# Altium integrated library Motorola Microcontroller 16-Bit.IntLib: 323 symbols (part 1 of 22)
Pins are listed as number, name and electrical type; pins without a type are passive.

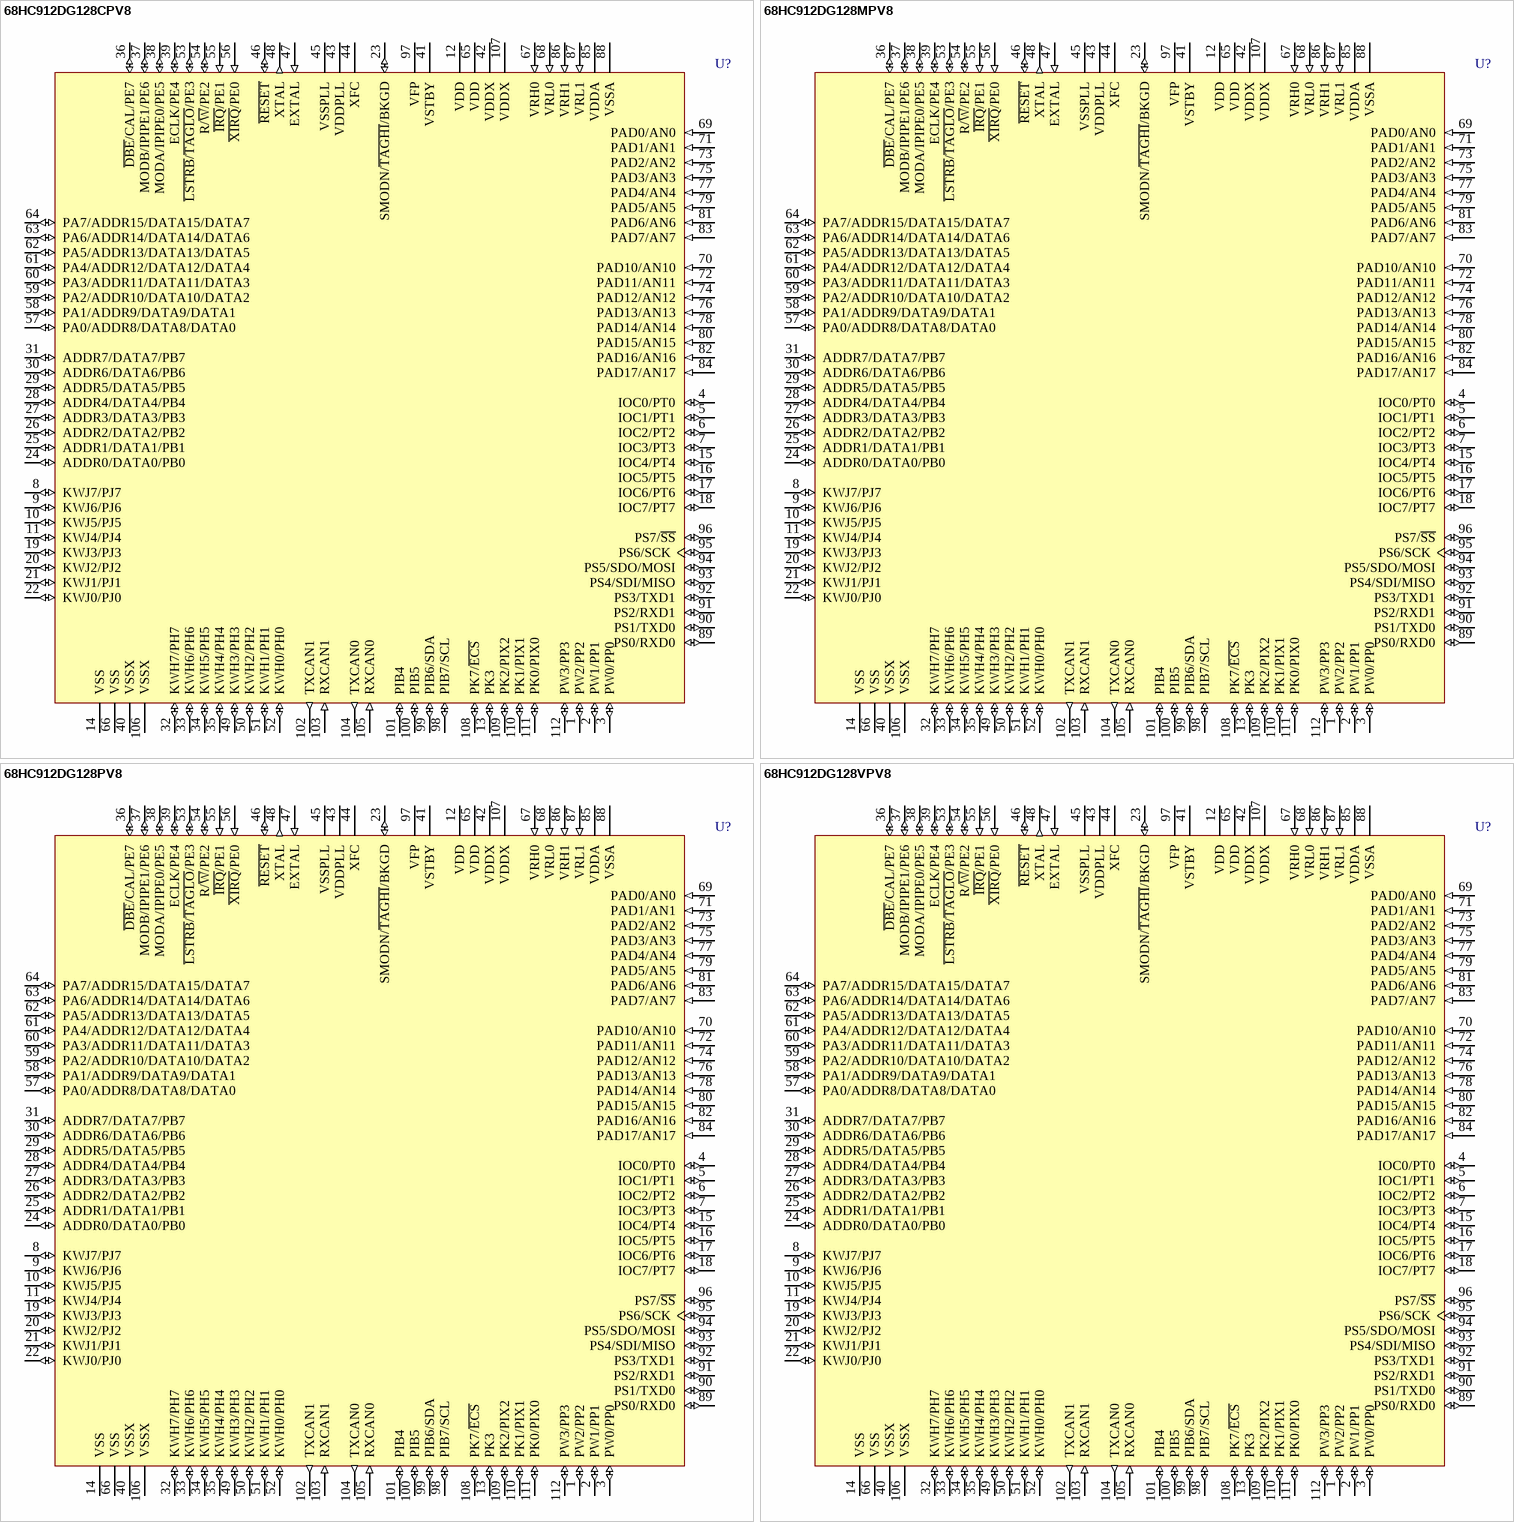
[diagram p0: symbols 68HC912DG128CPV8 to 68HC912DG128VPV8]

## 68HC912DG128CPV8
designator U?
16-Bit Microcontroller; Published: 21-Mar-2003; LatestRevisionDate: 13-Apr-2006; LatestRevisionNote: IPC-7351 Footprint Added.; DatasheetVersion: 5-Mar-2001; PackageVersion: rev3.1, Nov-2000; PackageReference: 987-01; Publisher: Altium Limited; PackageDescription: 112-Pin Thin Quad Flat Pack 0.65 mm Pitch; ComponentLink1Description: Manufacturer Link; ComponentLink1URL: http://www.freescale.com/
footprint 987-01_N (Thin QFP, 112-Leads, Body 20 x 20mm, Pitch 0.65mm, IPC Medium Density)
footprint 987-01_L (Thin QFP, 112-Leads, Body 20 x 20mm, Pitch 0.65mm, IPC High Density)
footprint 987-01_M (Thin QFP, 112-Leads, Body 20 x 20mm, Pitch 0.65mm, IPC Low Density)
3D model 68HC912-987-01 (112-Pin Thin Quad Flat Pack 0.65 mm Pitch)
pins: 1 PW2/PP2 (io), 2 PW1/PP1 (io), 3 PW0/PP0 (io), 4 IOC0/PT0 (io), 5 IOC1/PT1 (io), 6 IOC2/PT2 (io), 7 IOC3/PT3 (io), 8 KWJ7/PJ7 (io), 9 KWJ6/PJ6 (io), 10 KWJ5/PJ5 (io), 11 KWJ4/PJ4 (io), 12 VDD (power), 13 PK3 (io), 14 VSS (power), 15 IOC4/PT4 (io), 16 IOC5/PT5 (io), 17 IOC6/PT6 (io), 18 IOC7/PT7 (io), 19 KWJ3/PJ3 (io), 20 KWJ2/PJ2 (io), 21 KWJ1/PJ1 (io), 22 KWJ0/PJ0 (io), 23 SMODN/~{TAGHI}/BKGD (io), 24 ADDR0/DATA0/PB0 (io), 25 ADDR1/DATA1/PB1 (io), 26 ADDR2/DATA2/PB2 (io), 27 ADDR3/DATA3/PB3 (io), 28 ADDR4/DATA4/PB4 (io), 29 ADDR5/DATA5/PB5 (io), 30 ADDR6/DATA6/PB6 (io), 31 ADDR7/DATA7/PB7 (io), 32 KWH7/PH7 (io), 33 KWH6/PH6 (io), 34 KWH5/PH5 (io), 35 KWH4/PH4 (io), 36 ~{DBE}/CAL/PE7 (io), 37 MODB/IPIPE1/PE6 (io), 38 MODA/IPIPE0/PE5 (io), 39 ECLK/PE4 (io), 40 VSSX (power), 41 VSTBY (power), 42 VDDX (power), 43 VDDPLL (power), 44 XFC, 45 VSSPLL (power), 46 ~{RESET} (io), 47 EXTAL (in), 48 XTAL (out), 49 KWH3/PH3 (io), 50 KWH2/PH2 (io), 51 KWH1/PH1 (io), 52 KWH0/PH0 (io), 53 ~{LSTRB}/~{TAGLO}/PE3 (io), 54 R/~{W}/PE2 (io), 55 ~{IRQ}/PE1 (in), 56 ~{XIRQ}/PE0 (in), 57 PA0/ADDR8/DATA8/DATA0 (io), 58 PA1/ADDR9/DATA9/DATA1 (io), 59 PA2/ADDR10/DATA10/DATA2 (io), 60 PA3/ADDR11/DATA11/DATA3 (io), 61 PA4/ADDR12/DATA12/DATA4 (io), 62 PA5/ADDR13/DATA13/DATA5 (io), 63 PA6/ADDR14/DATA14/DATA6 (io), 64 PA7/ADDR15/DATA15/DATA7 (io), 65 VDD (power), 66 VSS (power), 67 VRH0 (in), 68 VRL0 (in), 69 PAD0/AN0 (in), 70 PAD10/AN10 (in), 71 PAD1/AN1 (in), 72 PAD11/AN11 (in), 73 PAD2/AN2 (in), 74 PAD12/AN12 (in), 75 PAD3/AN3 (in), 76 PAD13/AN13 (in), 77 PAD4/AN4 (in), 78 PAD14/AN14 (in), 79 PAD5/AN5 (in), 80 PAD15/AN15 (in), 81 PAD6/AN6 (in), 82 PAD16/AN16 (in), 83 PAD7/AN7 (in), 84 PAD17/AN17 (in), 85 VDDA (power), 86 VRH1 (in), 87 VRL1 (in), 88 VSSA (power), 89 PS0/RXD0 (io), 90 PS1/TXD0 (io), 91 PS2/RXD1 (io), 92 PS3/TXD1 (io), 93 PS4/SDI/MISO (io), 94 PS5/SDO/MOSI (io), 95 PS6/SCK (io), 96 PS7/~{SS} (io), 97 VFP (power), 98 PIB7/SCL (io), 99 PIB6/SDA (io), 100 PIB5 (io), 101 PIB4 (io), 102 TXCAN1 (out), 103 RXCAN1 (in), 104 TXCAN0 (out), 105 RXCAN0 (in), 106 VSSX (power), 107 VDDX (power), 108 PK7/~{ECS} (io), 109 PK2/PIX2 (io), 110 PK1/PIX1 (io), 111 PK0/PIX0 (io), 112 PW3/PP3 (io)

## 68HC912DG128MPV8
designator U?
16-Bit Microcontroller; Note: M Temperature Operation only available for single chip modes.; Published: 21-Mar-2003; LatestRevisionDate: 13-Apr-2006; LatestRevisionNote: IPC-7351 Footprint Added.; DatasheetVersion: 5-Mar-2001; PackageVersion: rev3.1, Nov-2000; PackageReference: 987-01; Publisher: Altium Limited; PackageDescription: 112-Pin Thin Quad Flat Pack 0.65 mm Pitch; ComponentLink1Description: Manufacturer Link; ComponentLink1URL: http://www.freescale.com/
footprint 987-01_N (Thin QFP, 112-Leads, Body 20 x 20mm, Pitch 0.65mm, IPC Medium Density)
footprint 987-01_L (Thin QFP, 112-Leads, Body 20 x 20mm, Pitch 0.65mm, IPC High Density)
footprint 987-01_M (Thin QFP, 112-Leads, Body 20 x 20mm, Pitch 0.65mm, IPC Low Density)
3D model 68HC912-987-01 (112-Pin Thin Quad Flat Pack 0.65 mm Pitch)
pins: 1 PW2/PP2 (io), 2 PW1/PP1 (io), 3 PW0/PP0 (io), 4 IOC0/PT0 (io), 5 IOC1/PT1 (io), 6 IOC2/PT2 (io), 7 IOC3/PT3 (io), 8 KWJ7/PJ7 (io), 9 KWJ6/PJ6 (io), 10 KWJ5/PJ5 (io), 11 KWJ4/PJ4 (io), 12 VDD (power), 13 PK3 (io), 14 VSS (power), 15 IOC4/PT4 (io), 16 IOC5/PT5 (io), 17 IOC6/PT6 (io), 18 IOC7/PT7 (io), 19 KWJ3/PJ3 (io), 20 KWJ2/PJ2 (io), 21 KWJ1/PJ1 (io), 22 KWJ0/PJ0 (io), 23 SMODN/~{TAGHI}/BKGD (io), 24 ADDR0/DATA0/PB0 (io), 25 ADDR1/DATA1/PB1 (io), 26 ADDR2/DATA2/PB2 (io), 27 ADDR3/DATA3/PB3 (io), 28 ADDR4/DATA4/PB4 (io), 29 ADDR5/DATA5/PB5 (io), 30 ADDR6/DATA6/PB6 (io), 31 ADDR7/DATA7/PB7 (io), 32 KWH7/PH7 (io), 33 KWH6/PH6 (io), 34 KWH5/PH5 (io), 35 KWH4/PH4 (io), 36 ~{DBE}/CAL/PE7 (io), 37 MODB/IPIPE1/PE6 (io), 38 MODA/IPIPE0/PE5 (io), 39 ECLK/PE4 (io), 40 VSSX (power), 41 VSTBY (power), 42 VDDX (power), 43 VDDPLL (power), 44 XFC, 45 VSSPLL (power), 46 ~{RESET} (io), 47 EXTAL (in), 48 XTAL (out), 49 KWH3/PH3 (io), 50 KWH2/PH2 (io), 51 KWH1/PH1 (io), 52 KWH0/PH0 (io), 53 ~{LSTRB}/~{TAGLO}/PE3 (io), 54 R/~{W}/PE2 (io), 55 ~{IRQ}/PE1 (in), 56 ~{XIRQ}/PE0 (in), 57 PA0/ADDR8/DATA8/DATA0 (io), 58 PA1/ADDR9/DATA9/DATA1 (io), 59 PA2/ADDR10/DATA10/DATA2 (io), 60 PA3/ADDR11/DATA11/DATA3 (io), 61 PA4/ADDR12/DATA12/DATA4 (io), 62 PA5/ADDR13/DATA13/DATA5 (io), 63 PA6/ADDR14/DATA14/DATA6 (io), 64 PA7/ADDR15/DATA15/DATA7 (io), 65 VDD (power), 66 VSS (power), 67 VRH0 (in), 68 VRL0 (in), 69 PAD0/AN0 (in), 70 PAD10/AN10 (in), 71 PAD1/AN1 (in), 72 PAD11/AN11 (in), 73 PAD2/AN2 (in), 74 PAD12/AN12 (in), 75 PAD3/AN3 (in), 76 PAD13/AN13 (in), 77 PAD4/AN4 (in), 78 PAD14/AN14 (in), 79 PAD5/AN5 (in), 80 PAD15/AN15 (in), 81 PAD6/AN6 (in), 82 PAD16/AN16 (in), 83 PAD7/AN7 (in), 84 PAD17/AN17 (in), 85 VDDA (power), 86 VRH1 (in), 87 VRL1 (in), 88 VSSA (power), 89 PS0/RXD0 (io), 90 PS1/TXD0 (io), 91 PS2/RXD1 (io), 92 PS3/TXD1 (io), 93 PS4/SDI/MISO (io), 94 PS5/SDO/MOSI (io), 95 PS6/SCK (io), 96 PS7/~{SS} (io), 97 VFP (power), 98 PIB7/SCL (io), 99 PIB6/SDA (io), 100 PIB5 (io), 101 PIB4 (io), 102 TXCAN1 (out), 103 RXCAN1 (in), 104 TXCAN0 (out), 105 RXCAN0 (in), 106 VSSX (power), 107 VDDX (power), 108 PK7/~{ECS} (io), 109 PK2/PIX2 (io), 110 PK1/PIX1 (io), 111 PK0/PIX0 (io), 112 PW3/PP3 (io)

## 68HC912DG128PV8
designator U?
16-Bit Microcontroller; Published: 21-Mar-2003; LatestRevisionDate: 13-Apr-2006; LatestRevisionNote: IPC-7351 Footprint Added.; DatasheetVersion: 5-Mar-2001; PackageVersion: rev3.1, Nov-2000; PackageReference: 987-01; Publisher: Altium Limited; PackageDescription: 112-Pin Thin Quad Flat Pack 0.65 mm Pitch; ComponentLink1Description: Manufacturer Link; ComponentLink1URL: http://www.freescale.com/
footprint 987-01_N (Thin QFP, 112-Leads, Body 20 x 20mm, Pitch 0.65mm, IPC Medium Density)
footprint 987-01_L (Thin QFP, 112-Leads, Body 20 x 20mm, Pitch 0.65mm, IPC High Density)
footprint 987-01_M (Thin QFP, 112-Leads, Body 20 x 20mm, Pitch 0.65mm, IPC Low Density)
3D model 68HC912-987-01 (112-Pin Thin Quad Flat Pack 0.65 mm Pitch)
pins: 1 PW2/PP2 (io), 2 PW1/PP1 (io), 3 PW0/PP0 (io), 4 IOC0/PT0 (io), 5 IOC1/PT1 (io), 6 IOC2/PT2 (io), 7 IOC3/PT3 (io), 8 KWJ7/PJ7 (io), 9 KWJ6/PJ6 (io), 10 KWJ5/PJ5 (io), 11 KWJ4/PJ4 (io), 12 VDD (power), 13 PK3 (io), 14 VSS (power), 15 IOC4/PT4 (io), 16 IOC5/PT5 (io), 17 IOC6/PT6 (io), 18 IOC7/PT7 (io), 19 KWJ3/PJ3 (io), 20 KWJ2/PJ2 (io), 21 KWJ1/PJ1 (io), 22 KWJ0/PJ0 (io), 23 SMODN/~{TAGHI}/BKGD (io), 24 ADDR0/DATA0/PB0 (io), 25 ADDR1/DATA1/PB1 (io), 26 ADDR2/DATA2/PB2 (io), 27 ADDR3/DATA3/PB3 (io), 28 ADDR4/DATA4/PB4 (io), 29 ADDR5/DATA5/PB5 (io), 30 ADDR6/DATA6/PB6 (io), 31 ADDR7/DATA7/PB7 (io), 32 KWH7/PH7 (io), 33 KWH6/PH6 (io), 34 KWH5/PH5 (io), 35 KWH4/PH4 (io), 36 ~{DBE}/CAL/PE7 (io), 37 MODB/IPIPE1/PE6 (io), 38 MODA/IPIPE0/PE5 (io), 39 ECLK/PE4 (io), 40 VSSX (power), 41 VSTBY (power), 42 VDDX (power), 43 VDDPLL (power), 44 XFC, 45 VSSPLL (power), 46 ~{RESET} (io), 47 EXTAL (in), 48 XTAL (out), 49 KWH3/PH3 (io), 50 KWH2/PH2 (io), 51 KWH1/PH1 (io), 52 KWH0/PH0 (io), 53 ~{LSTRB}/~{TAGLO}/PE3 (io), 54 R/~{W}/PE2 (io), 55 ~{IRQ}/PE1 (in), 56 ~{XIRQ}/PE0 (in), 57 PA0/ADDR8/DATA8/DATA0 (io), 58 PA1/ADDR9/DATA9/DATA1 (io), 59 PA2/ADDR10/DATA10/DATA2 (io), 60 PA3/ADDR11/DATA11/DATA3 (io), 61 PA4/ADDR12/DATA12/DATA4 (io), 62 PA5/ADDR13/DATA13/DATA5 (io), 63 PA6/ADDR14/DATA14/DATA6 (io), 64 PA7/ADDR15/DATA15/DATA7 (io), 65 VDD (power), 66 VSS (power), 67 VRH0 (in), 68 VRL0 (in), 69 PAD0/AN0 (in), 70 PAD10/AN10 (in), 71 PAD1/AN1 (in), 72 PAD11/AN11 (in), 73 PAD2/AN2 (in), 74 PAD12/AN12 (in), 75 PAD3/AN3 (in), 76 PAD13/AN13 (in), 77 PAD4/AN4 (in), 78 PAD14/AN14 (in), 79 PAD5/AN5 (in), 80 PAD15/AN15 (in), 81 PAD6/AN6 (in), 82 PAD16/AN16 (in), 83 PAD7/AN7 (in), 84 PAD17/AN17 (in), 85 VDDA (power), 86 VRH1 (in), 87 VRL1 (in), 88 VSSA (power), 89 PS0/RXD0 (io), 90 PS1/TXD0 (io), 91 PS2/RXD1 (io), 92 PS3/TXD1 (io), 93 PS4/SDI/MISO (io), 94 PS5/SDO/MOSI (io), 95 PS6/SCK (io), 96 PS7/~{SS} (io), 97 VFP (power), 98 PIB7/SCL (io), 99 PIB6/SDA (io), 100 PIB5 (io), 101 PIB4 (io), 102 TXCAN1 (out), 103 RXCAN1 (in), 104 TXCAN0 (out), 105 RXCAN0 (in), 106 VSSX (power), 107 VDDX (power), 108 PK7/~{ECS} (io), 109 PK2/PIX2 (io), 110 PK1/PIX1 (io), 111 PK0/PIX0 (io), 112 PW3/PP3 (io)

## 68HC912DG128VPV8
designator U?
16-Bit Microcontroller; Published: 21-Mar-2003; LatestRevisionDate: 13-Apr-2006; LatestRevisionNote: IPC-7351 Footprint Added.; DatasheetVersion: 5-Mar-2001; PackageVersion: rev3.1, Nov-2000; PackageReference: 987-01; Publisher: Altium Limited; PackageDescription: 112-Pin Thin Quad Flat Pack 0.65 mm Pitch; ComponentLink1Description: Manufacturer Link; ComponentLink1URL: http://www.freescale.com/
footprint 987-01_N (Thin QFP, 112-Leads, Body 20 x 20mm, Pitch 0.65mm, IPC Medium Density)
footprint 987-01_L (Thin QFP, 112-Leads, Body 20 x 20mm, Pitch 0.65mm, IPC High Density)
footprint 987-01_M (Thin QFP, 112-Leads, Body 20 x 20mm, Pitch 0.65mm, IPC Low Density)
3D model 68HC912-987-01 (112-Pin Thin Quad Flat Pack 0.65 mm Pitch)
pins: 1 PW2/PP2 (io), 2 PW1/PP1 (io), 3 PW0/PP0 (io), 4 IOC0/PT0 (io), 5 IOC1/PT1 (io), 6 IOC2/PT2 (io), 7 IOC3/PT3 (io), 8 KWJ7/PJ7 (io), 9 KWJ6/PJ6 (io), 10 KWJ5/PJ5 (io), 11 KWJ4/PJ4 (io), 12 VDD (power), 13 PK3 (io), 14 VSS (power), 15 IOC4/PT4 (io), 16 IOC5/PT5 (io), 17 IOC6/PT6 (io), 18 IOC7/PT7 (io), 19 KWJ3/PJ3 (io), 20 KWJ2/PJ2 (io), 21 KWJ1/PJ1 (io), 22 KWJ0/PJ0 (io), 23 SMODN/~{TAGHI}/BKGD (io), 24 ADDR0/DATA0/PB0 (io), 25 ADDR1/DATA1/PB1 (io), 26 ADDR2/DATA2/PB2 (io), 27 ADDR3/DATA3/PB3 (io), 28 ADDR4/DATA4/PB4 (io), 29 ADDR5/DATA5/PB5 (io), 30 ADDR6/DATA6/PB6 (io), 31 ADDR7/DATA7/PB7 (io), 32 KWH7/PH7 (io), 33 KWH6/PH6 (io), 34 KWH5/PH5 (io), 35 KWH4/PH4 (io), 36 ~{DBE}/CAL/PE7 (io), 37 MODB/IPIPE1/PE6 (io), 38 MODA/IPIPE0/PE5 (io), 39 ECLK/PE4 (io), 40 VSSX (power), 41 VSTBY (power), 42 VDDX (power), 43 VDDPLL (power), 44 XFC, 45 VSSPLL (power), 46 ~{RESET} (io), 47 EXTAL (in), 48 XTAL (out), 49 KWH3/PH3 (io), 50 KWH2/PH2 (io), 51 KWH1/PH1 (io), 52 KWH0/PH0 (io), 53 ~{LSTRB}/~{TAGLO}/PE3 (io), 54 R/~{W}/PE2 (io), 55 ~{IRQ}/PE1 (in), 56 ~{XIRQ}/PE0 (in), 57 PA0/ADDR8/DATA8/DATA0 (io), 58 PA1/ADDR9/DATA9/DATA1 (io), 59 PA2/ADDR10/DATA10/DATA2 (io), 60 PA3/ADDR11/DATA11/DATA3 (io), 61 PA4/ADDR12/DATA12/DATA4 (io), 62 PA5/ADDR13/DATA13/DATA5 (io), 63 PA6/ADDR14/DATA14/DATA6 (io), 64 PA7/ADDR15/DATA15/DATA7 (io), 65 VDD (power), 66 VSS (power), 67 VRH0 (in), 68 VRL0 (in), 69 PAD0/AN0 (in), 70 PAD10/AN10 (in), 71 PAD1/AN1 (in), 72 PAD11/AN11 (in), 73 PAD2/AN2 (in), 74 PAD12/AN12 (in), 75 PAD3/AN3 (in), 76 PAD13/AN13 (in), 77 PAD4/AN4 (in), 78 PAD14/AN14 (in), 79 PAD5/AN5 (in), 80 PAD15/AN15 (in), 81 PAD6/AN6 (in), 82 PAD16/AN16 (in), 83 PAD7/AN7 (in), 84 PAD17/AN17 (in), 85 VDDA (power), 86 VRH1 (in), 87 VRL1 (in), 88 VSSA (power), 89 PS0/RXD0 (io), 90 PS1/TXD0 (io), 91 PS2/RXD1 (io), 92 PS3/TXD1 (io), 93 PS4/SDI/MISO (io), 94 PS5/SDO/MOSI (io), 95 PS6/SCK (io), 96 PS7/~{SS} (io), 97 VFP (power), 98 PIB7/SCL (io), 99 PIB6/SDA (io), 100 PIB5 (io), 101 PIB4 (io), 102 TXCAN1 (out), 103 RXCAN1 (in), 104 TXCAN0 (out), 105 RXCAN0 (in), 106 VSSX (power), 107 VDDX (power), 108 PK7/~{ECS} (io), 109 PK2/PIX2 (io), 110 PK1/PIX1 (io), 111 PK0/PIX0 (io), 112 PW3/PP3 (io)

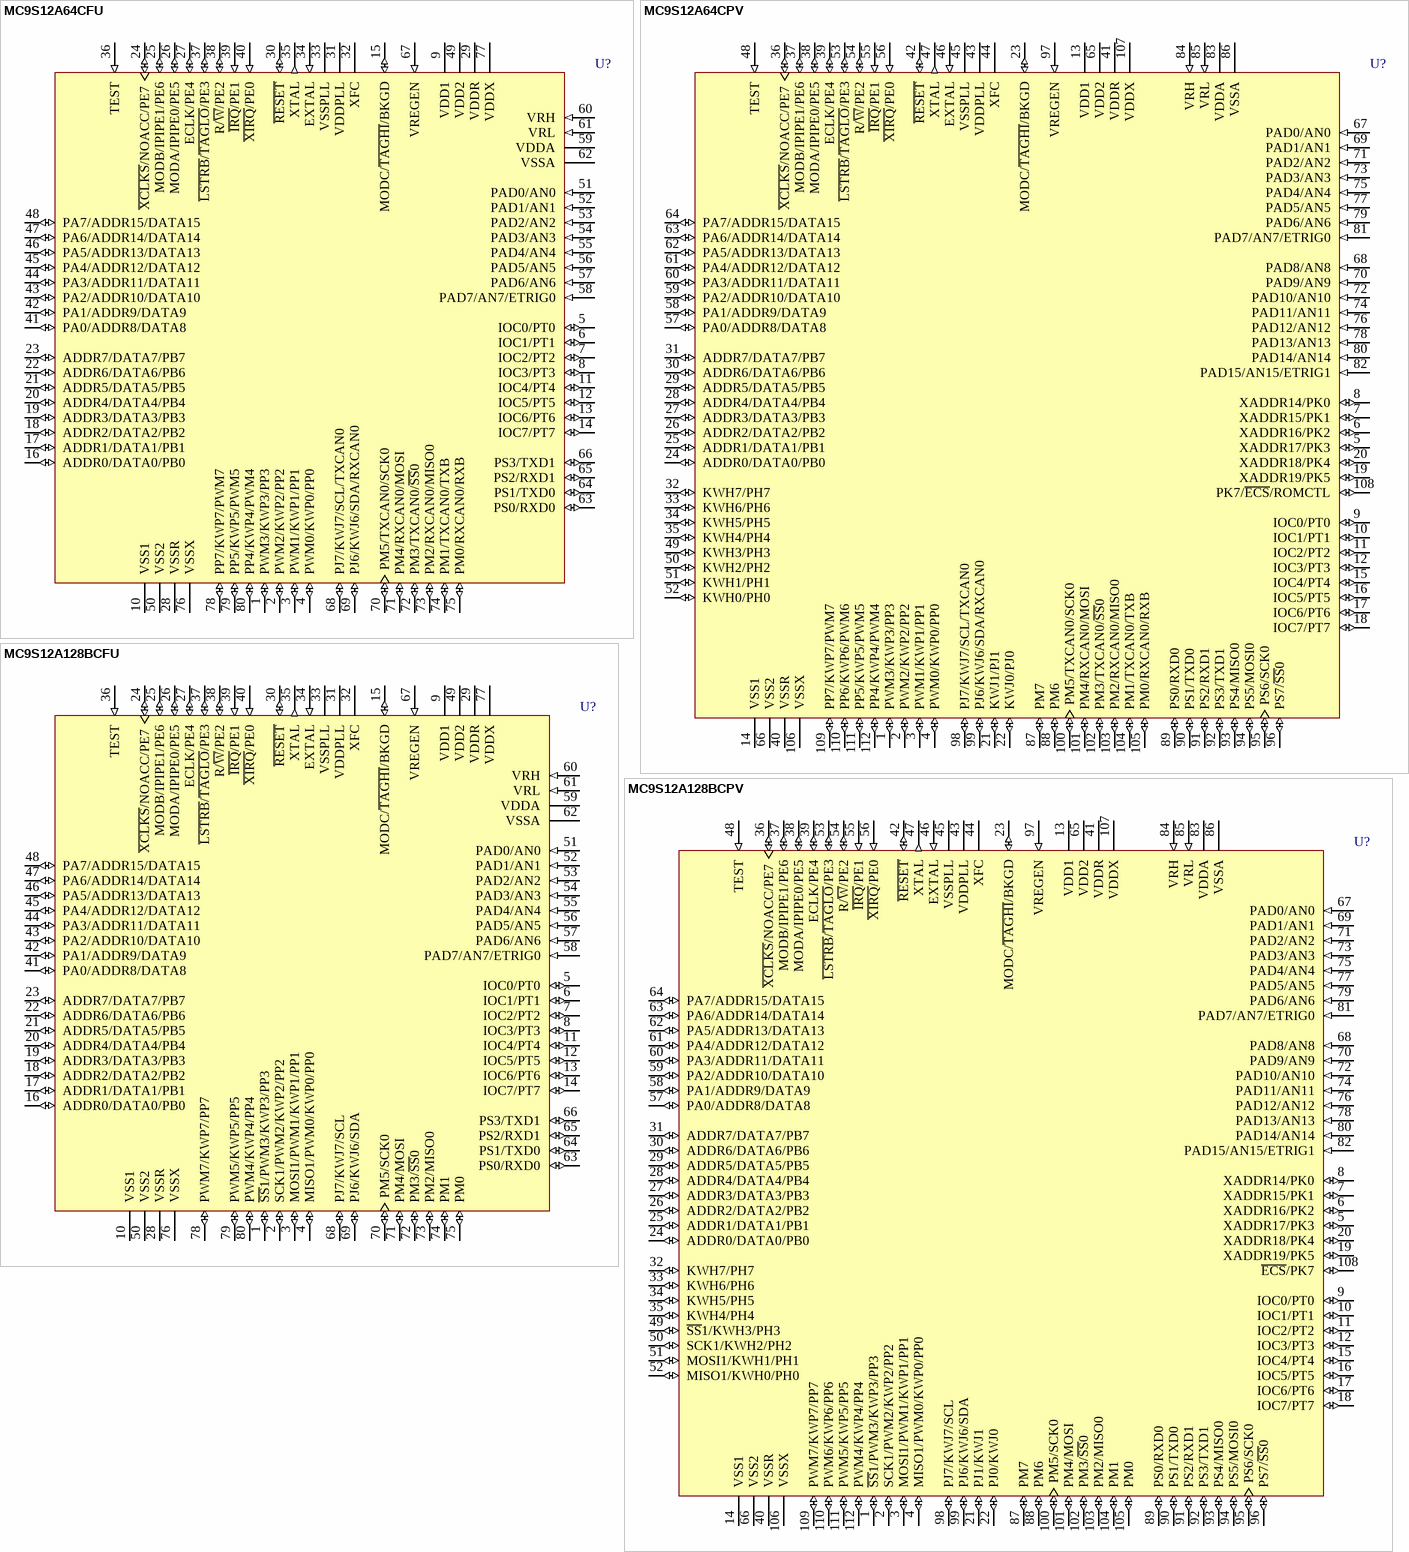
[diagram p1: symbols MC9S12A64CFU to MC9S12A128BCPV]

## MC9S12A64CFU
designator U?
16-Bit Microcontroller; Published: 21-Mar-2003; LatestRevisionDate: 13-Apr-2006; LatestRevisionNote: IPC-7351 Footprint Added.; DatasheetVersion: 10-Oct-2002; PackageVersion: 2000; PackageReference: 841B; Publisher: Altium Limited; PackageDescription: 80-Pin Plastic Quad Flat Pack 0.65 mm Pitch; Code_IPC: QFP65P1720X1720-80; ComponentLink1Description: Manufacturer Link; ComponentLink1URL: http://www.freescale.com/; ComponentLink2Description: Datasheet; ComponentLink2URL: http://www.freescale.com/files/microcontrollers/doc/data_sheet/9S12DJ64DGV1.pdf
footprint 841B_N (QFP, 80-Leads, Body 14 x 14mm, Pitch 0.65mm, IPC Medium Density)
footprint 841B_L (QFP, 80-Leads, Body 14 x 14mm, Pitch 0.65mm, IPC High Density)
footprint 841B_M (QFP, 80-Leads, Body 14 x 14mm, Pitch 0.65mm, IPC Low Density)
3D model MC9S12-841B (80-Pin Plastic Quad Flat Pack 0.65 mm Pitch)
pins: 1 PWM3/KWP3/PP3 (io), 2 PWM2/KWP2/PP2 (io), 3 PWM1/KWP1/PP1 (io), 4 PWM0/KWP0/PP0 (io), 5 IOC0/PT0 (io), 6 IOC1/PT1 (io), 7 IOC2/PT2 (io), 8 IOC3/PT3 (io), 9 VDD1 (power), 10 VSS1 (power), 11 IOC4/PT4 (io), 12 IOC5/PT5 (io), 13 IOC6/PT6 (io), 14 IOC7/PT7 (io), 15 MODC/~{TAGHI}/BKGD (io), 16 ADDR0/DATA0/PB0 (io), 17 ADDR1/DATA1/PB1 (io), 18 ADDR2/DATA2/PB2 (io), 19 ADDR3/DATA3/PB3 (io), 20 ADDR4/DATA4/PB4 (io), 21 ADDR5/DATA5/PB5 (io), 22 ADDR6/DATA6/PB6 (io), 23 ADDR7/DATA7/PB7 (io), 24 ~{XCLKS}/NOACC/PE7 (io), 25 MODB/IPIPE1/PE6 (io), 26 MODA/IPIPE0/PE5 (io), 27 ECLK/PE4 (io), 28 VSSR (power), 29 VDDR (power), 30 ~{RESET} (io), 31 VDDPLL (power), 32 XFC, 33 VSSPLL (power), 34 EXTAL (in), 35 XTAL (out), 36 TEST (in), 37 ~{LSTRB}/~{TAGLO}/PE3 (io), 38 R/~{W}/PE2 (io), 39 ~{IRQ}/PE1 (in), 40 ~{XIRQ}/PE0 (in), 41 PA0/ADDR8/DATA8 (io), 42 PA1/ADDR9/DATA9 (io), 43 PA2/ADDR10/DATA10 (io), 44 PA3/ADDR11/DATA11 (io), 45 PA4/ADDR12/DATA12 (io), 46 PA5/ADDR13/DATA13 (io), 47 PA6/ADDR14/DATA14 (io), 48 PA7/ADDR15/DATA15 (io), 49 VDD2 (power), 50 VSS2 (power), 51 PAD0/AN0 (in), 52 PAD1/AN1 (in), 53 PAD2/AN2 (in), 54 PAD3/AN3 (in), 55 PAD4/AN4 (in), 56 PAD5/AN5 (in), 57 PAD6/AN6 (in), 58 PAD7/AN7/ETRIG0 (in), 59 VDDA (power), 60 VRH (in), 61 VRL (in), 62 VSSA (power), 63 PS0/RXD0 (io), 64 PS1/TXD0 (io), 65 PS2/RXD1 (io), 66 PS3/TXD1 (io), 67 VREGEN (in), 68 PJ7/KWJ7/SCL/TXCAN0 (io), 69 PJ6/KWJ6/SDA/RXCAN0 (io), 70 PM5/TXCAN0/SCK0 (io), 71 PM4/RXCAN0/MOSI (io), 72 PM3/TXCAN0/~{SS}0 (io), 73 PM2/RXCAN0/MISO0 (io), 74 PM1/TXCAN0/TXB (io), 75 PM0/RXCAN0/RXB (io), 76 VSSX (power), 77 VDDX (power), 78 PP7/KWP7/PWM7 (io), 79 PP5/KWP5/PWM5 (io), 80 PP4/KWP4/PWM4 (io)

## MC9S12A64CPV
designator U?
16-Bit Microcontroller; Published: 21-Mar-2003; LatestRevisionDate: 13-Apr-2006; LatestRevisionNote: IPC-7351 Footprint Added.; DatasheetVersion: 10-Oct-2002; PackageVersion: rev3.1, Nov-2000; PackageReference: 987-01; Publisher: Altium Limited; PackageDescription: 112-Pin Thin Quad Flat Pack 0.65 mm Pitch; ComponentLink1Description: Manufacturer Link; ComponentLink1URL: http://www.freescale.com/; ComponentLink2Description: Datasheet; ComponentLink2URL: http://www.freescale.com/files/microcontrollers/doc/data_sheet/9S12DJ64DGV1.pdf
footprint 987-01_N (Thin QFP, 112-Leads, Body 20 x 20mm, Pitch 0.65mm, IPC Medium Density)
footprint 987-01_L (Thin QFP, 112-Leads, Body 20 x 20mm, Pitch 0.65mm, IPC High Density)
footprint 987-01_M (Thin QFP, 112-Leads, Body 20 x 20mm, Pitch 0.65mm, IPC Low Density)
3D model MC9S12-987-01 (112-Pin Thin Quad Flat Pack 0.65 mm Pitch)
pins: 1 PWM3/KWP3/PP3 (io), 2 PWM2/KWP2/PP2 (io), 3 PWM1/KWP1/PP1 (io), 4 PWM0/KWP0/PP0 (io), 5 XADDR17/PK3 (io), 6 XADDR16/PK2 (io), 7 XADDR15/PK1 (io), 8 XADDR14/PK0 (io), 9 IOC0/PT0 (io), 10 IOC1/PT1 (io), 11 IOC2/PT2 (io), 12 IOC3/PT3 (io), 13 VDD1 (power), 14 VSS1 (power), 15 IOC4/PT4 (io), 16 IOC5/PT5 (io), 17 IOC6/PT6 (io), 18 IOC7/PT7 (io), 19 XADDR19/PK5 (io), 20 XADDR18/PK4 (io), 21 KWJ1/PJ1 (io), 22 KWJ0/PJ0 (io), 23 MODC/~{TAGHI}/BKGD (io), 24 ADDR0/DATA0/PB0 (io), 25 ADDR1/DATA1/PB1 (io), 26 ADDR2/DATA2/PB2 (io), 27 ADDR3/DATA3/PB3 (io), 28 ADDR4/DATA4/PB4 (io), 29 ADDR5/DATA5/PB5 (io), 30 ADDR6/DATA6/PB6 (io), 31 ADDR7/DATA7/PB7 (io), 32 KWH7/PH7 (io), 33 KWH6/PH6 (io), 34 KWH5/PH5 (io), 35 KWH4/PH4 (io), 36 ~{XCLKS}/NOACC/PE7 (io), 37 MODB/IPIPE1/PE6 (io), 38 MODA/IPIPE0/PE5 (io), 39 ECLK/PE4 (io), 40 VSSR (power), 41 VDDR (power), 42 ~{RESET} (io), 43 VDDPLL (power), 44 XFC, 45 VSSPLL (power), 46 EXTAL (in), 47 XTAL (out), 48 TEST (in), 49 KWH3/PH3 (io), 50 KWH2/PH2 (io), 51 KWH1/PH1 (io), 52 KWH0/PH0 (io), 53 ~{LSTRB}/~{TAGLO}/PE3 (io), 54 R/~{W}/PE2 (io), 55 ~{IRQ}/PE1 (in), 56 ~{XIRQ}/PE0 (in), 57 PA0/ADDR8/DATA8 (io), 58 PA1/ADDR9/DATA9 (io), 59 PA2/ADDR10/DATA10 (io), 60 PA3/ADDR11/DATA11 (io), 61 PA4/ADDR12/DATA12 (io), 62 PA5/ADDR13/DATA13 (io), 63 PA6/ADDR14/DATA14 (io), 64 PA7/ADDR15/DATA15 (io), 65 VDD2 (power), 66 VSS2 (power), 67 PAD0/AN0 (in), 68 PAD8/AN8 (in), 69 PAD1/AN1 (in), 70 PAD9/AN9 (in), 71 PAD2/AN2 (in), 72 PAD10/AN10 (in), 73 PAD3/AN3 (in), 74 PAD11/AN11 (in), 75 PAD4/AN4 (in), 76 PAD12/AN12 (in), 77 PAD5/AN5 (in), 78 PAD13/AN13 (in), 79 PAD6/AN6 (in), 80 PAD14/AN14 (in), 81 PAD7/AN7/ETRIG0 (in), 82 PAD15/AN15/ETRIG1 (in), 83 VDDA (power), 84 VRH (in), 85 VRL (in), 86 VSSA (power), 87 PM7 (io), 88 PM6 (io), 89 PS0/RXD0 (io), 90 PS1/TXD0 (io), 91 PS2/RXD1 (io), 92 PS3/TXD1 (io), 93 PS4/MISO0 (io), 94 PS5/MOSI0 (io), 95 PS6/SCK0 (io), 96 PS7/~{SS}0 (io), 97 VREGEN (in), 98 PJ7/KWJ7/SCL/TXCAN0 (io), 99 PJ6/KWJ6/SDA/RXCAN0 (io), 100 PM5/TXCAN0/SCK0 (io), 101 PM4/RXCAN0/MOSI (io), 102 PM3/TXCAN0/~{SS}0 (io), 103 PM2/RXCAN0/MISO0 (io), 104 PM1/TXCAN0/TXB (io), 105 PM0/RXCAN0/RXB (io), 106 VSSX (power), 107 VDDX (power), 108 PK7/~{ECS}/ROMCTL (io), 109 PP7/KWP7/PWM7 (io), 110 PP6/KWP6/PWM6 (io), 111 PP5/KWP5/PWM5 (io), 112 PP4/KWP4/PWM4 (io)

## MC9S12A128BCFU
designator U?
16-Bit Microcontroller; Published: 21-Mar-2003; LatestRevisionDate: 13-Apr-2006; LatestRevisionNote: IPC-7351 Footprint Added.; DatasheetVersion: 17-Apr-2002; PackageVersion: 2000; PackageReference: 841B; Publisher: Altium Limited; PackageDescription: 80-Pin Plastic Quad Flat Pack 0.65 mm Pitch; Code_IPC: QFP65P1720X1720-80; ComponentLink1Description: Manufacturer Link; ComponentLink1URL: http://www.freescale.com/
footprint 841B_N (QFP, 80-Leads, Body 14 x 14mm, Pitch 0.65mm, IPC Medium Density)
footprint 841B_L (QFP, 80-Leads, Body 14 x 14mm, Pitch 0.65mm, IPC High Density)
footprint 841B_M (QFP, 80-Leads, Body 14 x 14mm, Pitch 0.65mm, IPC Low Density)
3D model MC9S12-841B (80-Pin Plastic Quad Flat Pack 0.65 mm Pitch)
pins: 1 ~{SS}1/PWM3/KWP3/PP3 (io), 2 SCK1/PWM2/KWP2/PP2 (io), 3 MOSI1/PWM1/KWP1/PP1 (io), 4 MISO1/PWM0/KWP0/PP0 (io), 5 IOC0/PT0 (io), 6 IOC1/PT1 (io), 7 IOC2/PT2 (io), 8 IOC3/PT3 (io), 9 VDD1 (power), 10 VSS1 (power), 11 IOC4/PT4 (io), 12 IOC5/PT5 (io), 13 IOC6/PT6 (io), 14 IOC7/PT7 (io), 15 MODC/~{TAGHI}/BKGD (io), 16 ADDR0/DATA0/PB0 (io), 17 ADDR1/DATA1/PB1 (io), 18 ADDR2/DATA2/PB2 (io), 19 ADDR3/DATA3/PB3 (io), 20 ADDR4/DATA4/PB4 (io), 21 ADDR5/DATA5/PB5 (io), 22 ADDR6/DATA6/PB6 (io), 23 ADDR7/DATA7/PB7 (io), 24 ~{XCLKS}/NOACC/PE7 (io), 25 MODB/IPIPE1/PE6 (io), 26 MODA/IPIPE0/PE5 (io), 27 ECLK/PE4 (io), 28 VSSR (power), 29 VDDR (power), 30 ~{RESET} (io), 31 VDDPLL (power), 32 XFC, 33 VSSPLL (power), 34 EXTAL (in), 35 XTAL (out), 36 TEST (in), 37 ~{LSTRB}/~{TAGLO}/PE3 (io), 38 R/~{W}/PE2 (io), 39 ~{IRQ}/PE1 (in), 40 ~{XIRQ}/PE0 (in), 41 PA0/ADDR8/DATA8 (io), 42 PA1/ADDR9/DATA9 (io), 43 PA2/ADDR10/DATA10 (io), 44 PA3/ADDR11/DATA11 (io), 45 PA4/ADDR12/DATA12 (io), 46 PA5/ADDR13/DATA13 (io), 47 PA6/ADDR14/DATA14 (io), 48 PA7/ADDR15/DATA15 (io), 49 VDD2 (power), 50 VSS2 (power), 51 PAD0/AN0 (in), 52 PAD1/AN1 (in), 53 PAD2/AN2 (in), 54 PAD3/AN3 (in), 55 PAD4/AN4 (in), 56 PAD5/AN5 (in), 57 PAD6/AN6 (in), 58 PAD7/AN7/ETRIG0 (in), 59 VDDA (power), 60 VRH (in), 61 VRL (in), 62 VSSA (power), 63 PS0/RXD0 (io), 64 PS1/TXD0 (io), 65 PS2/RXD1 (io), 66 PS3/TXD1 (io), 67 VREGEN (in), 68 PJ7/KWJ7/SCL (io), 69 PJ6/KWJ6/SDA (io), 70 PM5/SCK0 (io), 71 PM4/MOSI (io), 72 PM3/~{SS}0 (io), 73 PM2/MISO0 (io), 74 PM1 (io), 75 PM0 (io), 76 VSSX (power), 77 VDDX (power), 78 PWM7/KWP7/PP7 (io), 79 PWM5/KWP5/PP5 (io), 80 PWM4/KWP4/PP4 (io)

## MC9S12A128BCPV
designator U?
16-Bit Microcontroller; Published: 21-Mar-2003; LatestRevisionDate: 13-Apr-2006; LatestRevisionNote: IPC-7351 Footprint Added.; DatasheetVersion: 17-Apr-2002; PackageVersion: rev3.1, Nov-2000; PackageReference: 987-01; Publisher: Altium Limited; PackageDescription: 112-Pin Thin Quad Flat Pack 0.65 mm Pitch; ComponentLink1Description: Manufacturer Link; ComponentLink1URL: http://www.freescale.com/
footprint 987-01_N (Thin QFP, 112-Leads, Body 20 x 20mm, Pitch 0.65mm, IPC Medium Density)
footprint 987-01_L (Thin QFP, 112-Leads, Body 20 x 20mm, Pitch 0.65mm, IPC High Density)
footprint 987-01_M (Thin QFP, 112-Leads, Body 20 x 20mm, Pitch 0.65mm, IPC Low Density)
3D model MC9S12-987-01 (112-Pin Thin Quad Flat Pack 0.65 mm Pitch)
pins: 1 ~{SS}1/PWM3/KWP3/PP3 (io), 2 SCK1/PWM2/KWP2/PP2 (io), 3 MOSI1/PWM1/KWP1/PP1 (io), 4 MISO1/PWM0/KWP0/PP0 (io), 5 XADDR17/PK3 (io), 6 XADDR16/PK2 (io), 7 XADDR15/PK1 (io), 8 XADDR14/PK0 (io), 9 IOC0/PT0 (io), 10 IOC1/PT1 (io), 11 IOC2/PT2 (io), 12 IOC3/PT3 (io), 13 VDD1 (power), 14 VSS1 (power), 15 IOC4/PT4 (io), 16 IOC5/PT5 (io), 17 IOC6/PT6 (io), 18 IOC7/PT7 (io), 19 XADDR19/PK5 (io), 20 XADDR18/PK4 (io), 21 PJ1/KWJ1 (io), 22 PJ0/KWJ0 (io), 23 MODC/~{TAGHI}/BKGD (io), 24 ADDR0/DATA0/PB0 (io), 25 ADDR1/DATA1/PB1 (io), 26 ADDR2/DATA2/PB2 (io), 27 ADDR3/DATA3/PB3 (io), 28 ADDR4/DATA4/PB4 (io), 29 ADDR5/DATA5/PB5 (io), 30 ADDR6/DATA6/PB6 (io), 31 ADDR7/DATA7/PB7 (io), 32 KWH7/PH7 (io), 33 KWH6/PH6 (io), 34 KWH5/PH5 (io), 35 KWH4/PH4 (io), 36 ~{XCLKS}/NOACC/PE7 (io), 37 MODB/IPIPE1/PE6 (io), 38 MODA/IPIPE0/PE5 (io), 39 ECLK/PE4 (io), 40 VSSR (power), 41 VDDR (power), 42 ~{RESET} (io), 43 VDDPLL (power), 44 XFC, 45 VSSPLL (power), 46 EXTAL (in), 47 XTAL (out), 48 TEST (in), 49 ~{SS}1/KWH3/PH3 (io), 50 SCK1/KWH2/PH2 (io), 51 MOSI1/KWH1/PH1 (io), 52 MISO1/KWH0/PH0 (io), 53 ~{LSTRB}/~{TAGLO}/PE3 (io), 54 R/~{W}/PE2 (io), 55 ~{IRQ}/PE1 (in), 56 ~{XIRQ}/PE0 (in), 57 PA0/ADDR8/DATA8 (io), 58 PA1/ADDR9/DATA9 (io), 59 PA2/ADDR10/DATA10 (io), 60 PA3/ADDR11/DATA11 (io), 61 PA4/ADDR12/DATA12 (io), 62 PA5/ADDR13/DATA13 (io), 63 PA6/ADDR14/DATA14 (io), 64 PA7/ADDR15/DATA15 (io), 65 VDD2 (power), 66 VSS2 (power), 67 PAD0/AN0 (in), 68 PAD8/AN8 (in), 69 PAD1/AN1 (in), 70 PAD9/AN9 (in), 71 PAD2/AN2 (in), 72 PAD10/AN10 (in), 73 PAD3/AN3 (in), 74 PAD11/AN11 (in), 75 PAD4/AN4 (in), 76 PAD12/AN12 (in), 77 PAD5/AN5 (in), 78 PAD13/AN13 (in), 79 PAD6/AN6 (in), 80 PAD14/AN14 (in), 81 PAD7/AN7/ETRIG0 (in), 82 PAD15/AN15/ETRIG1 (in), 83 VDDA (power), 84 VRH (in), 85 VRL (in), 86 VSSA (power), 87 PM7 (io), 88 PM6 (io), 89 PS0/RXD0 (io), 90 PS1/TXD0 (io), 91 PS2/RXD1 (io), 92 PS3/TXD1 (io), 93 PS4/MISO0 (io), 94 PS5/MOSI0 (io), 95 PS6/SCK0 (io), 96 PS7/~{SS}0 (io), 97 VREGEN (in), 98 PJ7/KWJ7/SCL (io), 99 PJ6/KWJ6/SDA (io), 100 PM5/SCK0 (io), 101 PM4/MOSI (io), 102 PM3/~{SS}0 (io), 103 PM2/MISO0 (io), 104 PM1 (io), 105 PM0 (io), 106 VSSX (power), 107 VDDX (power), 108 ~{ECS}/PK7 (io), 109 PWM7/KWP7/PP7 (io), 110 PWM6/KWP6/PP6 (io), 111 PWM5/KWP5/PP5 (io), 112 PWM4/KWP4/PP4 (io)

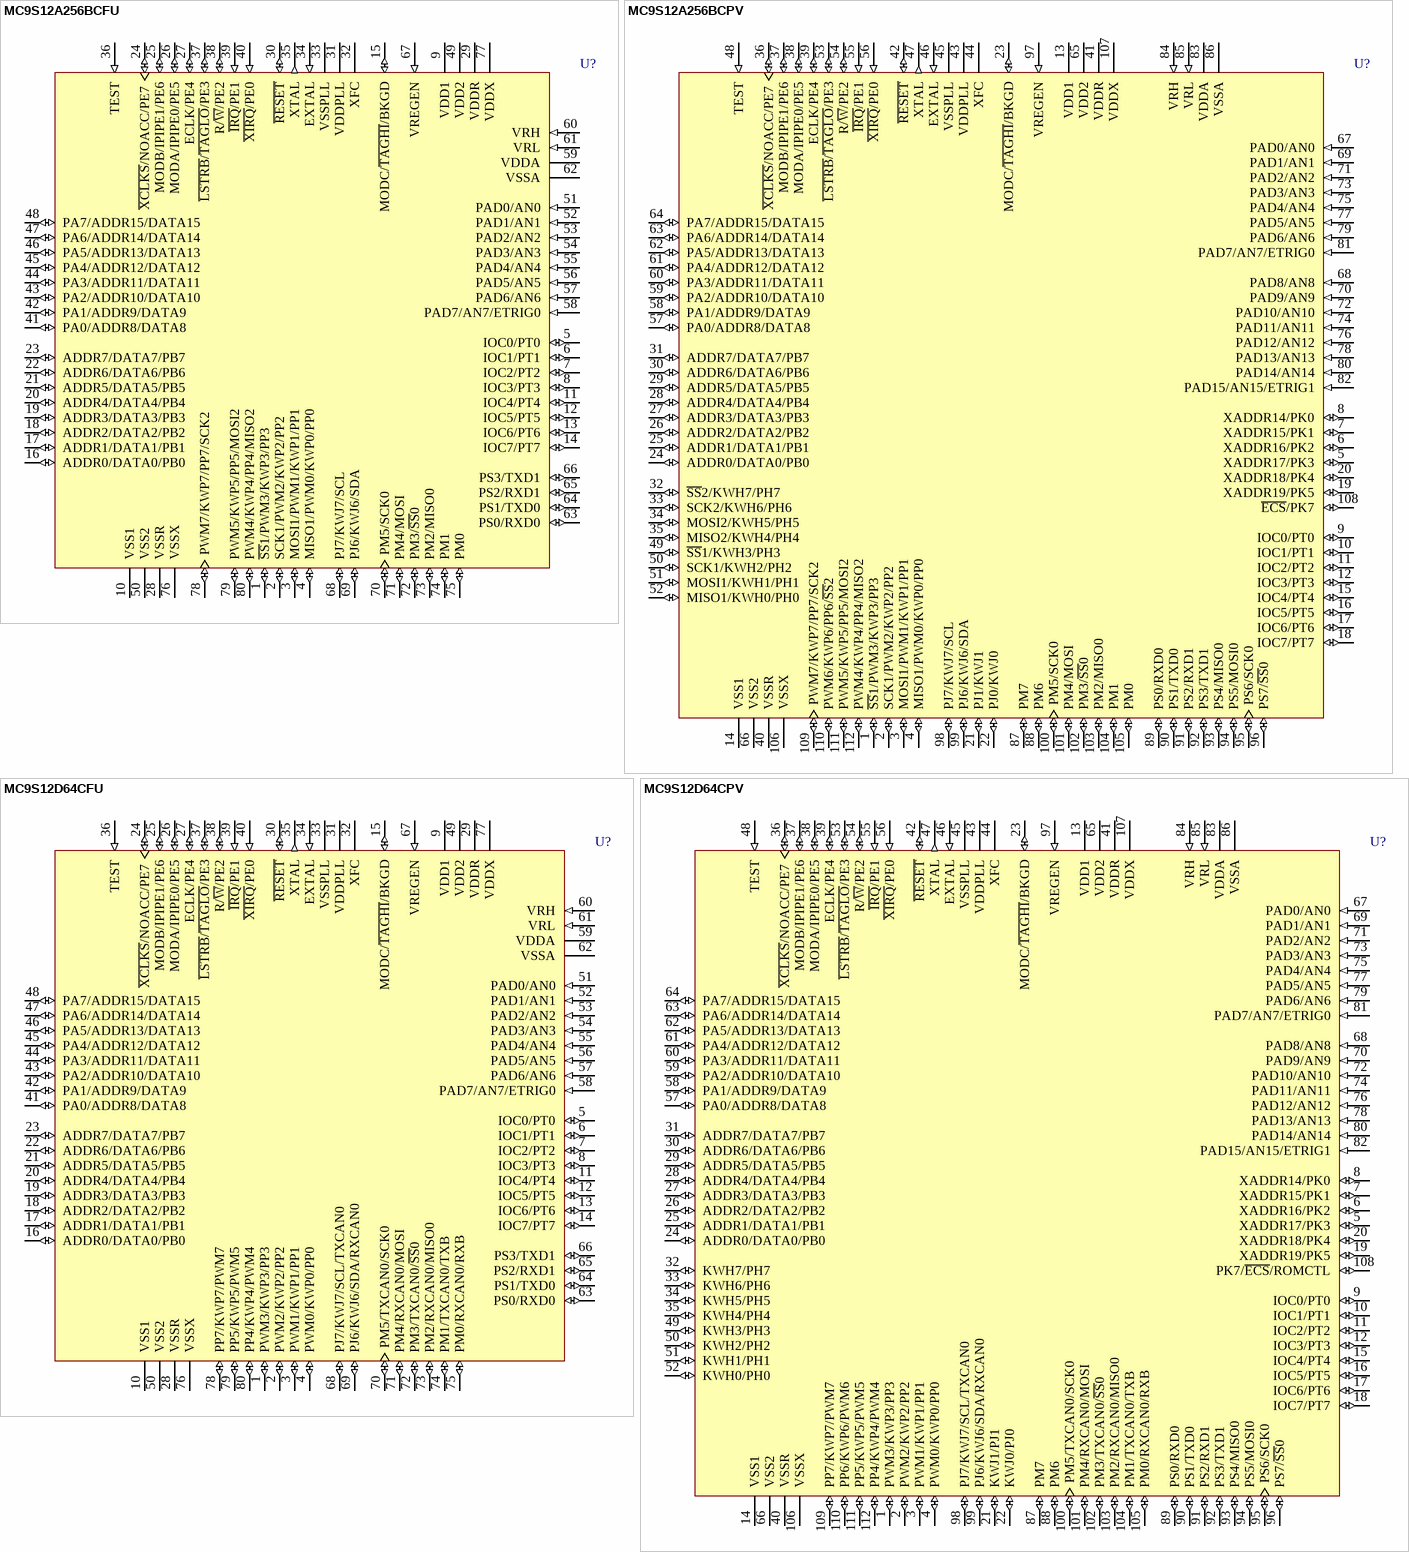
[diagram p2: symbols MC9S12A256BCFU to MC9S12D64CPV]

## MC9S12A256BCFU
designator U?
16-Bit Microcontroller; Published: 21-Mar-2003; LatestRevisionDate: 13-Apr-2006; LatestRevisionNote: IPC-7351 Footprint Added.; DatasheetVersion: 12-Apr-2002; PackageVersion: 2000; PackageReference: 841B; Publisher: Altium Limited; PackageDescription: 80-Pin Plastic Quad Flat Pack 0.65 mm Pitch; Code_IPC: QFP65P1720X1720-80; ComponentLink1Description: Manufacturer Link; ComponentLink1URL: http://www.freescale.com/
footprint 841B_N (QFP, 80-Leads, Body 14 x 14mm, Pitch 0.65mm, IPC Medium Density)
footprint 841B_L (QFP, 80-Leads, Body 14 x 14mm, Pitch 0.65mm, IPC High Density)
footprint 841B_M (QFP, 80-Leads, Body 14 x 14mm, Pitch 0.65mm, IPC Low Density)
3D model MC9S12-841B (80-Pin Plastic Quad Flat Pack 0.65 mm Pitch)
pins: 1 ~{SS}1/PWM3/KWP3/PP3 (io), 2 SCK1/PWM2/KWP2/PP2 (io), 3 MOSI1/PWM1/KWP1/PP1 (io), 4 MISO1/PWM0/KWP0/PP0 (io), 5 IOC0/PT0 (io), 6 IOC1/PT1 (io), 7 IOC2/PT2 (io), 8 IOC3/PT3 (io), 9 VDD1 (power), 10 VSS1 (power), 11 IOC4/PT4 (io), 12 IOC5/PT5 (io), 13 IOC6/PT6 (io), 14 IOC7/PT7 (io), 15 MODC/~{TAGHI}/BKGD (io), 16 ADDR0/DATA0/PB0 (io), 17 ADDR1/DATA1/PB1 (io), 18 ADDR2/DATA2/PB2 (io), 19 ADDR3/DATA3/PB3 (io), 20 ADDR4/DATA4/PB4 (io), 21 ADDR5/DATA5/PB5 (io), 22 ADDR6/DATA6/PB6 (io), 23 ADDR7/DATA7/PB7 (io), 24 ~{XCLKS}/NOACC/PE7 (io), 25 MODB/IPIPE1/PE6 (io), 26 MODA/IPIPE0/PE5 (io), 27 ECLK/PE4 (io), 28 VSSR (power), 29 VDDR (power), 30 ~{RESET} (io), 31 VDDPLL (power), 32 XFC, 33 VSSPLL (power), 34 EXTAL (in), 35 XTAL (out), 36 TEST (in), 37 ~{LSTRB}/~{TAGLO}/PE3 (io), 38 R/~{W}/PE2 (io), 39 ~{IRQ}/PE1 (in), 40 ~{XIRQ}/PE0 (in), 41 PA0/ADDR8/DATA8 (io), 42 PA1/ADDR9/DATA9 (io), 43 PA2/ADDR10/DATA10 (io), 44 PA3/ADDR11/DATA11 (io), 45 PA4/ADDR12/DATA12 (io), 46 PA5/ADDR13/DATA13 (io), 47 PA6/ADDR14/DATA14 (io), 48 PA7/ADDR15/DATA15 (io), 49 VDD2 (power), 50 VSS2 (power), 51 PAD0/AN0 (in), 52 PAD1/AN1 (in), 53 PAD2/AN2 (in), 54 PAD3/AN3 (in), 55 PAD4/AN4 (in), 56 PAD5/AN5 (in), 57 PAD6/AN6 (in), 58 PAD7/AN7/ETRIG0 (in), 59 VDDA (power), 60 VRH (in), 61 VRL (in), 62 VSSA (power), 63 PS0/RXD0 (io), 64 PS1/TXD0 (io), 65 PS2/RXD1 (io), 66 PS3/TXD1 (io), 67 VREGEN (in), 68 PJ7/KWJ7/SCL (io), 69 PJ6/KWJ6/SDA (io), 70 PM5/SCK0 (io), 71 PM4/MOSI (io), 72 PM3/~{SS}0 (io), 73 PM2/MISO0 (io), 74 PM1 (io), 75 PM0 (io), 76 VSSX (power), 77 VDDX (power), 78 PWM7/KWP7/PP7/SCK2 (io), 79 PWM5/KWP5/PP5/MOSI2 (io), 80 PWM4/KWP4/PP4/MISO2 (io)

## MC9S12A256BCPV
designator U?
16-Bit Microcontroller; Published: 21-Mar-2003; LatestRevisionDate: 13-Apr-2006; LatestRevisionNote: IPC-7351 Footprint Added.; DatasheetVersion: 12-Apr-2002; PackageVersion: rev3.1, Nov-2000; PackageReference: 987-01; Publisher: Altium Limited; PackageDescription: 112-Pin Thin Quad Flat Pack 0.65 mm Pitch; ComponentLink1Description: Manufacturer Link; ComponentLink1URL: http://www.freescale.com/
footprint 987-01_N (Thin QFP, 112-Leads, Body 20 x 20mm, Pitch 0.65mm, IPC Medium Density)
footprint 987-01_L (Thin QFP, 112-Leads, Body 20 x 20mm, Pitch 0.65mm, IPC High Density)
footprint 987-01_M (Thin QFP, 112-Leads, Body 20 x 20mm, Pitch 0.65mm, IPC Low Density)
3D model MC9S12-987-01 (112-Pin Thin Quad Flat Pack 0.65 mm Pitch)
pins: 1 ~{SS}1/PWM3/KWP3/PP3 (io), 2 SCK1/PWM2/KWP2/PP2 (io), 3 MOSI1/PWM1/KWP1/PP1 (io), 4 MISO1/PWM0/KWP0/PP0 (io), 5 XADDR17/PK3 (io), 6 XADDR16/PK2 (io), 7 XADDR15/PK1 (io), 8 XADDR14/PK0 (io), 9 IOC0/PT0 (io), 10 IOC1/PT1 (io), 11 IOC2/PT2 (io), 12 IOC3/PT3 (io), 13 VDD1 (power), 14 VSS1 (power), 15 IOC4/PT4 (io), 16 IOC5/PT5 (io), 17 IOC6/PT6 (io), 18 IOC7/PT7 (io), 19 XADDR19/PK5 (io), 20 XADDR18/PK4 (io), 21 PJ1/KWJ1 (io), 22 PJ0/KWJ0 (io), 23 MODC/~{TAGHI}/BKGD (io), 24 ADDR0/DATA0/PB0 (io), 25 ADDR1/DATA1/PB1 (io), 26 ADDR2/DATA2/PB2 (io), 27 ADDR3/DATA3/PB3 (io), 28 ADDR4/DATA4/PB4 (io), 29 ADDR5/DATA5/PB5 (io), 30 ADDR6/DATA6/PB6 (io), 31 ADDR7/DATA7/PB7 (io), 32 ~{SS}2/KWH7/PH7 (io), 33 SCK2/KWH6/PH6 (io), 34 MOSI2/KWH5/PH5 (io), 35 MISO2/KWH4/PH4 (io), 36 ~{XCLKS}/NOACC/PE7 (io), 37 MODB/IPIPE1/PE6 (io), 38 MODA/IPIPE0/PE5 (io), 39 ECLK/PE4 (io), 40 VSSR (power), 41 VDDR (power), 42 ~{RESET} (io), 43 VDDPLL (power), 44 XFC, 45 VSSPLL (power), 46 EXTAL (in), 47 XTAL (out), 48 TEST (in), 49 ~{SS}1/KWH3/PH3 (io), 50 SCK1/KWH2/PH2 (io), 51 MOSI1/KWH1/PH1 (io), 52 MISO1/KWH0/PH0 (io), 53 ~{LSTRB}/~{TAGLO}/PE3 (io), 54 R/~{W}/PE2 (io), 55 ~{IRQ}/PE1 (in), 56 ~{XIRQ}/PE0 (in), 57 PA0/ADDR8/DATA8 (io), 58 PA1/ADDR9/DATA9 (io), 59 PA2/ADDR10/DATA10 (io), 60 PA3/ADDR11/DATA11 (io), 61 PA4/ADDR12/DATA12 (io), 62 PA5/ADDR13/DATA13 (io), 63 PA6/ADDR14/DATA14 (io), 64 PA7/ADDR15/DATA15 (io), 65 VDD2 (power), 66 VSS2 (power), 67 PAD0/AN0 (in), 68 PAD8/AN8 (in), 69 PAD1/AN1 (in), 70 PAD9/AN9 (in), 71 PAD2/AN2 (in), 72 PAD10/AN10 (in), 73 PAD3/AN3 (in), 74 PAD11/AN11 (in), 75 PAD4/AN4 (in), 76 PAD12/AN12 (in), 77 PAD5/AN5 (in), 78 PAD13/AN13 (in), 79 PAD6/AN6 (in), 80 PAD14/AN14 (in), 81 PAD7/AN7/ETRIG0 (in), 82 PAD15/AN15/ETRIG1 (in), 83 VDDA (power), 84 VRH (in), 85 VRL (in), 86 VSSA (power), 87 PM7 (io), 88 PM6 (io), 89 PS0/RXD0 (io), 90 PS1/TXD0 (io), 91 PS2/RXD1 (io), 92 PS3/TXD1 (io), 93 PS4/MISO0 (io), 94 PS5/MOSI0 (io), 95 PS6/SCK0 (io), 96 PS7/~{SS}0 (io), 97 VREGEN (in), 98 PJ7/KWJ7/SCL (io), 99 PJ6/KWJ6/SDA (io), 100 PM5/SCK0 (io), 101 PM4/MOSI (io), 102 PM3/~{SS}0 (io), 103 PM2/MISO0 (io), 104 PM1 (io), 105 PM0 (io), 106 VSSX (power), 107 VDDX (power), 108 ~{ECS}/PK7 (io), 109 PWM7/KWP7/PP7/SCK2 (io), 110 PWM6/KWP6/PP6/~{SS}2 (io), 111 PWM5/KWP5/PP5/MOSI2 (io), 112 PWM4/KWP4/PP4/MISO2 (io)

## MC9S12D64CFU
designator U?
16-Bit Microcontroller; Published: 21-Mar-2003; LatestRevisionDate: 13-Apr-2006; LatestRevisionNote: IPC-7351 Footprint Added.; DatasheetVersion: 10-Oct-2002; PackageVersion: 2000; PackageReference: 841B; Publisher: Altium Limited; PackageDescription: 80-Pin Plastic Quad Flat Pack 0.65 mm Pitch; Code_IPC: QFP65P1720X1720-80; ComponentLink1Description: Manufacturer Link; ComponentLink1URL: http://www.freescale.com/; ComponentLink2Description: Datasheet; ComponentLink2URL: http://www.freescale.com/files/microcontrollers/doc/data_sheet/9S12DJ64DGV1.pdf
footprint 841B_N (QFP, 80-Leads, Body 14 x 14mm, Pitch 0.65mm, IPC Medium Density)
footprint 841B_L (QFP, 80-Leads, Body 14 x 14mm, Pitch 0.65mm, IPC High Density)
footprint 841B_M (QFP, 80-Leads, Body 14 x 14mm, Pitch 0.65mm, IPC Low Density)
3D model MC9S12-841B (80-Pin Plastic Quad Flat Pack 0.65 mm Pitch)
pins: 1 PWM3/KWP3/PP3 (io), 2 PWM2/KWP2/PP2 (io), 3 PWM1/KWP1/PP1 (io), 4 PWM0/KWP0/PP0 (io), 5 IOC0/PT0 (io), 6 IOC1/PT1 (io), 7 IOC2/PT2 (io), 8 IOC3/PT3 (io), 9 VDD1 (power), 10 VSS1 (power), 11 IOC4/PT4 (io), 12 IOC5/PT5 (io), 13 IOC6/PT6 (io), 14 IOC7/PT7 (io), 15 MODC/~{TAGHI}/BKGD (io), 16 ADDR0/DATA0/PB0 (io), 17 ADDR1/DATA1/PB1 (io), 18 ADDR2/DATA2/PB2 (io), 19 ADDR3/DATA3/PB3 (io), 20 ADDR4/DATA4/PB4 (io), 21 ADDR5/DATA5/PB5 (io), 22 ADDR6/DATA6/PB6 (io), 23 ADDR7/DATA7/PB7 (io), 24 ~{XCLKS}/NOACC/PE7 (io), 25 MODB/IPIPE1/PE6 (io), 26 MODA/IPIPE0/PE5 (io), 27 ECLK/PE4 (io), 28 VSSR (power), 29 VDDR (power), 30 ~{RESET} (io), 31 VDDPLL (power), 32 XFC, 33 VSSPLL (power), 34 EXTAL (in), 35 XTAL (out), 36 TEST (in), 37 ~{LSTRB}/~{TAGLO}/PE3 (io), 38 R/~{W}/PE2 (io), 39 ~{IRQ}/PE1 (in), 40 ~{XIRQ}/PE0 (in), 41 PA0/ADDR8/DATA8 (io), 42 PA1/ADDR9/DATA9 (io), 43 PA2/ADDR10/DATA10 (io), 44 PA3/ADDR11/DATA11 (io), 45 PA4/ADDR12/DATA12 (io), 46 PA5/ADDR13/DATA13 (io), 47 PA6/ADDR14/DATA14 (io), 48 PA7/ADDR15/DATA15 (io), 49 VDD2 (power), 50 VSS2 (power), 51 PAD0/AN0 (in), 52 PAD1/AN1 (in), 53 PAD2/AN2 (in), 54 PAD3/AN3 (in), 55 PAD4/AN4 (in), 56 PAD5/AN5 (in), 57 PAD6/AN6 (in), 58 PAD7/AN7/ETRIG0 (in), 59 VDDA (power), 60 VRH (in), 61 VRL (in), 62 VSSA (power), 63 PS0/RXD0 (io), 64 PS1/TXD0 (io), 65 PS2/RXD1 (io), 66 PS3/TXD1 (io), 67 VREGEN (in), 68 PJ7/KWJ7/SCL/TXCAN0 (io), 69 PJ6/KWJ6/SDA/RXCAN0 (io), 70 PM5/TXCAN0/SCK0 (io), 71 PM4/RXCAN0/MOSI (io), 72 PM3/TXCAN0/~{SS}0 (io), 73 PM2/RXCAN0/MISO0 (io), 74 PM1/TXCAN0/TXB (io), 75 PM0/RXCAN0/RXB (io), 76 VSSX (power), 77 VDDX (power), 78 PP7/KWP7/PWM7 (io), 79 PP5/KWP5/PWM5 (io), 80 PP4/KWP4/PWM4 (io)

## MC9S12D64CPV
designator U?
16-Bit Microcontroller; Published: 21-Mar-2003; LatestRevisionDate: 13-Apr-2006; LatestRevisionNote: IPC-7351 Footprint Added.; DatasheetVersion: 10-Oct-2002; PackageVersion: rev3.1, Nov-2000; PackageReference: 987-01; Publisher: Altium Limited; PackageDescription: 112-Pin Thin Quad Flat Pack 0.65 mm Pitch; ComponentLink1Description: Manufacturer Link; ComponentLink1URL: http://www.freescale.com/; ComponentLink2Description: Datasheet; ComponentLink2URL: http://www.freescale.com/files/microcontrollers/doc/data_sheet/9S12DJ64DGV1.pdf
footprint 987-01_N (Thin QFP, 112-Leads, Body 20 x 20mm, Pitch 0.65mm, IPC Medium Density)
footprint 987-01_L (Thin QFP, 112-Leads, Body 20 x 20mm, Pitch 0.65mm, IPC High Density)
footprint 987-01_M (Thin QFP, 112-Leads, Body 20 x 20mm, Pitch 0.65mm, IPC Low Density)
3D model MC9S12-987-01 (112-Pin Thin Quad Flat Pack 0.65 mm Pitch)
pins: 1 PWM3/KWP3/PP3 (io), 2 PWM2/KWP2/PP2 (io), 3 PWM1/KWP1/PP1 (io), 4 PWM0/KWP0/PP0 (io), 5 XADDR17/PK3 (io), 6 XADDR16/PK2 (io), 7 XADDR15/PK1 (io), 8 XADDR14/PK0 (io), 9 IOC0/PT0 (io), 10 IOC1/PT1 (io), 11 IOC2/PT2 (io), 12 IOC3/PT3 (io), 13 VDD1 (power), 14 VSS1 (power), 15 IOC4/PT4 (io), 16 IOC5/PT5 (io), 17 IOC6/PT6 (io), 18 IOC7/PT7 (io), 19 XADDR19/PK5 (io), 20 XADDR18/PK4 (io), 21 KWJ1/PJ1 (io), 22 KWJ0/PJ0 (io), 23 MODC/~{TAGHI}/BKGD (io), 24 ADDR0/DATA0/PB0 (io), 25 ADDR1/DATA1/PB1 (io), 26 ADDR2/DATA2/PB2 (io), 27 ADDR3/DATA3/PB3 (io), 28 ADDR4/DATA4/PB4 (io), 29 ADDR5/DATA5/PB5 (io), 30 ADDR6/DATA6/PB6 (io), 31 ADDR7/DATA7/PB7 (io), 32 KWH7/PH7 (io), 33 KWH6/PH6 (io), 34 KWH5/PH5 (io), 35 KWH4/PH4 (io), 36 ~{XCLKS}/NOACC/PE7 (io), 37 MODB/IPIPE1/PE6 (io), 38 MODA/IPIPE0/PE5 (io), 39 ECLK/PE4 (io), 40 VSSR (power), 41 VDDR (power), 42 ~{RESET} (io), 43 VDDPLL (power), 44 XFC, 45 VSSPLL (power), 46 EXTAL (in), 47 XTAL (out), 48 TEST (in), 49 KWH3/PH3 (io), 50 KWH2/PH2 (io), 51 KWH1/PH1 (io), 52 KWH0/PH0 (io), 53 ~{LSTRB}/~{TAGLO}/PE3 (io), 54 R/~{W}/PE2 (io), 55 ~{IRQ}/PE1 (in), 56 ~{XIRQ}/PE0 (in), 57 PA0/ADDR8/DATA8 (io), 58 PA1/ADDR9/DATA9 (io), 59 PA2/ADDR10/DATA10 (io), 60 PA3/ADDR11/DATA11 (io), 61 PA4/ADDR12/DATA12 (io), 62 PA5/ADDR13/DATA13 (io), 63 PA6/ADDR14/DATA14 (io), 64 PA7/ADDR15/DATA15 (io), 65 VDD2 (power), 66 VSS2 (power), 67 PAD0/AN0 (in), 68 PAD8/AN8 (in), 69 PAD1/AN1 (in), 70 PAD9/AN9 (in), 71 PAD2/AN2 (in), 72 PAD10/AN10 (in), 73 PAD3/AN3 (in), 74 PAD11/AN11 (in), 75 PAD4/AN4 (in), 76 PAD12/AN12 (in), 77 PAD5/AN5 (in), 78 PAD13/AN13 (in), 79 PAD6/AN6 (in), 80 PAD14/AN14 (in), 81 PAD7/AN7/ETRIG0 (in), 82 PAD15/AN15/ETRIG1 (in), 83 VDDA (power), 84 VRH (in), 85 VRL (in), 86 VSSA (power), 87 PM7 (io), 88 PM6 (io), 89 PS0/RXD0 (io), 90 PS1/TXD0 (io), 91 PS2/RXD1 (io), 92 PS3/TXD1 (io), 93 PS4/MISO0 (io), 94 PS5/MOSI0 (io), 95 PS6/SCK0 (io), 96 PS7/~{SS}0 (io), 97 VREGEN (in), 98 PJ7/KWJ7/SCL/TXCAN0 (io), 99 PJ6/KWJ6/SDA/RXCAN0 (io), 100 PM5/TXCAN0/SCK0 (io), 101 PM4/RXCAN0/MOSI (io), 102 PM3/TXCAN0/~{SS}0 (io), 103 PM2/RXCAN0/MISO0 (io), 104 PM1/TXCAN0/TXB (io), 105 PM0/RXCAN0/RXB (io), 106 VSSX (power), 107 VDDX (power), 108 PK7/~{ECS}/ROMCTL (io), 109 PP7/KWP7/PWM7 (io), 110 PP6/KWP6/PWM6 (io), 111 PP5/KWP5/PWM5 (io), 112 PP4/KWP4/PWM4 (io)

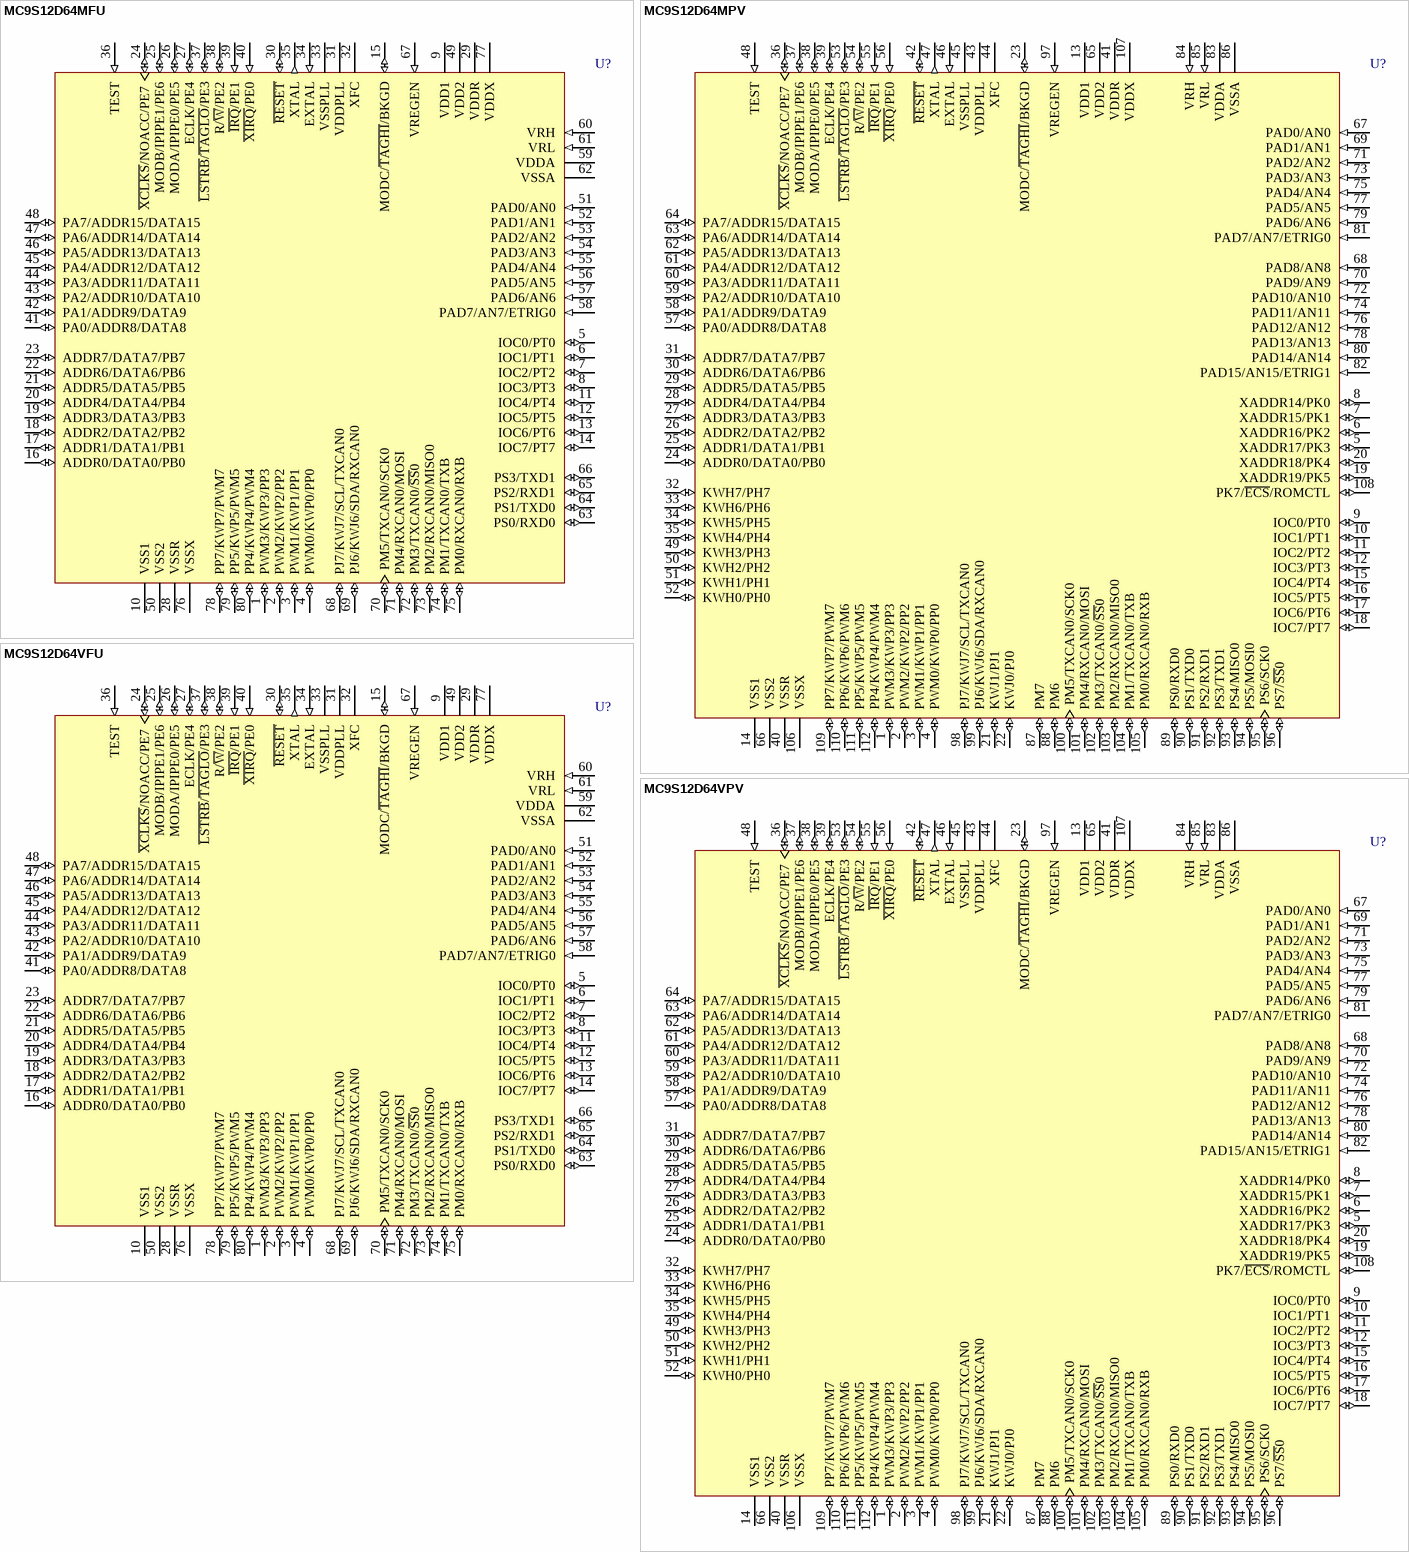
[diagram p3: symbols MC9S12D64MFU to MC9S12D64VPV]

## MC9S12D64MFU
designator U?
16-Bit Microcontroller; Published: 21-Mar-2003; LatestRevisionDate: 13-Apr-2006; LatestRevisionNote: IPC-7351 Footprint Added.; DatasheetVersion: 10-Oct-2002; PackageVersion: 2000; PackageReference: 841B; Publisher: Altium Limited; PackageDescription: 80-Pin Plastic Quad Flat Pack 0.65 mm Pitch; Code_IPC: QFP65P1720X1720-80; ComponentLink1Description: Manufacturer Link; ComponentLink1URL: http://www.freescale.com/; ComponentLink2Description: Datasheet; ComponentLink2URL: http://www.freescale.com/files/microcontrollers/doc/data_sheet/9S12DJ64DGV1.pdf
footprint 841B_N (QFP, 80-Leads, Body 14 x 14mm, Pitch 0.65mm, IPC Medium Density)
footprint 841B_L (QFP, 80-Leads, Body 14 x 14mm, Pitch 0.65mm, IPC High Density)
footprint 841B_M (QFP, 80-Leads, Body 14 x 14mm, Pitch 0.65mm, IPC Low Density)
3D model MC9S12-841B (80-Pin Plastic Quad Flat Pack 0.65 mm Pitch)
pins: 1 PWM3/KWP3/PP3 (io), 2 PWM2/KWP2/PP2 (io), 3 PWM1/KWP1/PP1 (io), 4 PWM0/KWP0/PP0 (io), 5 IOC0/PT0 (io), 6 IOC1/PT1 (io), 7 IOC2/PT2 (io), 8 IOC3/PT3 (io), 9 VDD1 (power), 10 VSS1 (power), 11 IOC4/PT4 (io), 12 IOC5/PT5 (io), 13 IOC6/PT6 (io), 14 IOC7/PT7 (io), 15 MODC/~{TAGHI}/BKGD (io), 16 ADDR0/DATA0/PB0 (io), 17 ADDR1/DATA1/PB1 (io), 18 ADDR2/DATA2/PB2 (io), 19 ADDR3/DATA3/PB3 (io), 20 ADDR4/DATA4/PB4 (io), 21 ADDR5/DATA5/PB5 (io), 22 ADDR6/DATA6/PB6 (io), 23 ADDR7/DATA7/PB7 (io), 24 ~{XCLKS}/NOACC/PE7 (io), 25 MODB/IPIPE1/PE6 (io), 26 MODA/IPIPE0/PE5 (io), 27 ECLK/PE4 (io), 28 VSSR (power), 29 VDDR (power), 30 ~{RESET} (io), 31 VDDPLL (power), 32 XFC, 33 VSSPLL (power), 34 EXTAL (in), 35 XTAL (out), 36 TEST (in), 37 ~{LSTRB}/~{TAGLO}/PE3 (io), 38 R/~{W}/PE2 (io), 39 ~{IRQ}/PE1 (in), 40 ~{XIRQ}/PE0 (in), 41 PA0/ADDR8/DATA8 (io), 42 PA1/ADDR9/DATA9 (io), 43 PA2/ADDR10/DATA10 (io), 44 PA3/ADDR11/DATA11 (io), 45 PA4/ADDR12/DATA12 (io), 46 PA5/ADDR13/DATA13 (io), 47 PA6/ADDR14/DATA14 (io), 48 PA7/ADDR15/DATA15 (io), 49 VDD2 (power), 50 VSS2 (power), 51 PAD0/AN0 (in), 52 PAD1/AN1 (in), 53 PAD2/AN2 (in), 54 PAD3/AN3 (in), 55 PAD4/AN4 (in), 56 PAD5/AN5 (in), 57 PAD6/AN6 (in), 58 PAD7/AN7/ETRIG0 (in), 59 VDDA (power), 60 VRH (in), 61 VRL (in), 62 VSSA (power), 63 PS0/RXD0 (io), 64 PS1/TXD0 (io), 65 PS2/RXD1 (io), 66 PS3/TXD1 (io), 67 VREGEN (in), 68 PJ7/KWJ7/SCL/TXCAN0 (io), 69 PJ6/KWJ6/SDA/RXCAN0 (io), 70 PM5/TXCAN0/SCK0 (io), 71 PM4/RXCAN0/MOSI (io), 72 PM3/TXCAN0/~{SS}0 (io), 73 PM2/RXCAN0/MISO0 (io), 74 PM1/TXCAN0/TXB (io), 75 PM0/RXCAN0/RXB (io), 76 VSSX (power), 77 VDDX (power), 78 PP7/KWP7/PWM7 (io), 79 PP5/KWP5/PWM5 (io), 80 PP4/KWP4/PWM4 (io)

## MC9S12D64MPV
designator U?
16-Bit Microcontroller; Published: 21-Mar-2003; LatestRevisionDate: 13-Apr-2006; LatestRevisionNote: IPC-7351 Footprint Added.; DatasheetVersion: 10-Oct-2002; PackageVersion: rev3.1, Nov-2000; PackageReference: 987-01; Publisher: Altium Limited; PackageDescription: 112-Pin Thin Quad Flat Pack 0.65 mm Pitch; ComponentLink1Description: Manufacturer Link; ComponentLink1URL: http://www.freescale.com/; ComponentLink2Description: Datasheet; ComponentLink2URL: http://www.freescale.com/files/microcontrollers/doc/data_sheet/9S12DJ64DGV1.pdf
footprint 987-01_N (Thin QFP, 112-Leads, Body 20 x 20mm, Pitch 0.65mm, IPC Medium Density)
footprint 987-01_L (Thin QFP, 112-Leads, Body 20 x 20mm, Pitch 0.65mm, IPC High Density)
footprint 987-01_M (Thin QFP, 112-Leads, Body 20 x 20mm, Pitch 0.65mm, IPC Low Density)
3D model MC9S12-987-01 (112-Pin Thin Quad Flat Pack 0.65 mm Pitch)
pins: 1 PWM3/KWP3/PP3 (io), 2 PWM2/KWP2/PP2 (io), 3 PWM1/KWP1/PP1 (io), 4 PWM0/KWP0/PP0 (io), 5 XADDR17/PK3 (io), 6 XADDR16/PK2 (io), 7 XADDR15/PK1 (io), 8 XADDR14/PK0 (io), 9 IOC0/PT0 (io), 10 IOC1/PT1 (io), 11 IOC2/PT2 (io), 12 IOC3/PT3 (io), 13 VDD1 (power), 14 VSS1 (power), 15 IOC4/PT4 (io), 16 IOC5/PT5 (io), 17 IOC6/PT6 (io), 18 IOC7/PT7 (io), 19 XADDR19/PK5 (io), 20 XADDR18/PK4 (io), 21 KWJ1/PJ1 (io), 22 KWJ0/PJ0 (io), 23 MODC/~{TAGHI}/BKGD (io), 24 ADDR0/DATA0/PB0 (io), 25 ADDR1/DATA1/PB1 (io), 26 ADDR2/DATA2/PB2 (io), 27 ADDR3/DATA3/PB3 (io), 28 ADDR4/DATA4/PB4 (io), 29 ADDR5/DATA5/PB5 (io), 30 ADDR6/DATA6/PB6 (io), 31 ADDR7/DATA7/PB7 (io), 32 KWH7/PH7 (io), 33 KWH6/PH6 (io), 34 KWH5/PH5 (io), 35 KWH4/PH4 (io), 36 ~{XCLKS}/NOACC/PE7 (io), 37 MODB/IPIPE1/PE6 (io), 38 MODA/IPIPE0/PE5 (io), 39 ECLK/PE4 (io), 40 VSSR (power), 41 VDDR (power), 42 ~{RESET} (io), 43 VDDPLL (power), 44 XFC, 45 VSSPLL (power), 46 EXTAL (in), 47 XTAL (out), 48 TEST (in), 49 KWH3/PH3 (io), 50 KWH2/PH2 (io), 51 KWH1/PH1 (io), 52 KWH0/PH0 (io), 53 ~{LSTRB}/~{TAGLO}/PE3 (io), 54 R/~{W}/PE2 (io), 55 ~{IRQ}/PE1 (in), 56 ~{XIRQ}/PE0 (in), 57 PA0/ADDR8/DATA8 (io), 58 PA1/ADDR9/DATA9 (io), 59 PA2/ADDR10/DATA10 (io), 60 PA3/ADDR11/DATA11 (io), 61 PA4/ADDR12/DATA12 (io), 62 PA5/ADDR13/DATA13 (io), 63 PA6/ADDR14/DATA14 (io), 64 PA7/ADDR15/DATA15 (io), 65 VDD2 (power), 66 VSS2 (power), 67 PAD0/AN0 (in), 68 PAD8/AN8 (in), 69 PAD1/AN1 (in), 70 PAD9/AN9 (in), 71 PAD2/AN2 (in), 72 PAD10/AN10 (in), 73 PAD3/AN3 (in), 74 PAD11/AN11 (in), 75 PAD4/AN4 (in), 76 PAD12/AN12 (in), 77 PAD5/AN5 (in), 78 PAD13/AN13 (in), 79 PAD6/AN6 (in), 80 PAD14/AN14 (in), 81 PAD7/AN7/ETRIG0 (in), 82 PAD15/AN15/ETRIG1 (in), 83 VDDA (power), 84 VRH (in), 85 VRL (in), 86 VSSA (power), 87 PM7 (io), 88 PM6 (io), 89 PS0/RXD0 (io), 90 PS1/TXD0 (io), 91 PS2/RXD1 (io), 92 PS3/TXD1 (io), 93 PS4/MISO0 (io), 94 PS5/MOSI0 (io), 95 PS6/SCK0 (io), 96 PS7/~{SS}0 (io), 97 VREGEN (in), 98 PJ7/KWJ7/SCL/TXCAN0 (io), 99 PJ6/KWJ6/SDA/RXCAN0 (io), 100 PM5/TXCAN0/SCK0 (io), 101 PM4/RXCAN0/MOSI (io), 102 PM3/TXCAN0/~{SS}0 (io), 103 PM2/RXCAN0/MISO0 (io), 104 PM1/TXCAN0/TXB (io), 105 PM0/RXCAN0/RXB (io), 106 VSSX (power), 107 VDDX (power), 108 PK7/~{ECS}/ROMCTL (io), 109 PP7/KWP7/PWM7 (io), 110 PP6/KWP6/PWM6 (io), 111 PP5/KWP5/PWM5 (io), 112 PP4/KWP4/PWM4 (io)

## MC9S12D64VFU
designator U?
16-Bit Microcontroller; Published: 21-Mar-2003; LatestRevisionDate: 13-Apr-2006; LatestRevisionNote: IPC-7351 Footprint Added.; DatasheetVersion: 10-Oct-2002; PackageVersion: 2000; PackageReference: 841B; Publisher: Altium Limited; PackageDescription: 80-Pin Plastic Quad Flat Pack 0.65 mm Pitch; Code_IPC: QFP65P1720X1720-80; ComponentLink1Description: Manufacturer Link; ComponentLink1URL: http://www.freescale.com/; ComponentLink2Description: Datasheet; ComponentLink2URL: http://www.freescale.com/files/microcontrollers/doc/data_sheet/9S12DJ64DGV1.pdf
footprint 841B_N (QFP, 80-Leads, Body 14 x 14mm, Pitch 0.65mm, IPC Medium Density)
footprint 841B_L (QFP, 80-Leads, Body 14 x 14mm, Pitch 0.65mm, IPC High Density)
footprint 841B_M (QFP, 80-Leads, Body 14 x 14mm, Pitch 0.65mm, IPC Low Density)
3D model MC9S12-841B (80-Pin Plastic Quad Flat Pack 0.65 mm Pitch)
pins: 1 PWM3/KWP3/PP3 (io), 2 PWM2/KWP2/PP2 (io), 3 PWM1/KWP1/PP1 (io), 4 PWM0/KWP0/PP0 (io), 5 IOC0/PT0 (io), 6 IOC1/PT1 (io), 7 IOC2/PT2 (io), 8 IOC3/PT3 (io), 9 VDD1 (power), 10 VSS1 (power), 11 IOC4/PT4 (io), 12 IOC5/PT5 (io), 13 IOC6/PT6 (io), 14 IOC7/PT7 (io), 15 MODC/~{TAGHI}/BKGD (io), 16 ADDR0/DATA0/PB0 (io), 17 ADDR1/DATA1/PB1 (io), 18 ADDR2/DATA2/PB2 (io), 19 ADDR3/DATA3/PB3 (io), 20 ADDR4/DATA4/PB4 (io), 21 ADDR5/DATA5/PB5 (io), 22 ADDR6/DATA6/PB6 (io), 23 ADDR7/DATA7/PB7 (io), 24 ~{XCLKS}/NOACC/PE7 (io), 25 MODB/IPIPE1/PE6 (io), 26 MODA/IPIPE0/PE5 (io), 27 ECLK/PE4 (io), 28 VSSR (power), 29 VDDR (power), 30 ~{RESET} (io), 31 VDDPLL (power), 32 XFC, 33 VSSPLL (power), 34 EXTAL (in), 35 XTAL (out), 36 TEST (in), 37 ~{LSTRB}/~{TAGLO}/PE3 (io), 38 R/~{W}/PE2 (io), 39 ~{IRQ}/PE1 (in), 40 ~{XIRQ}/PE0 (in), 41 PA0/ADDR8/DATA8 (io), 42 PA1/ADDR9/DATA9 (io), 43 PA2/ADDR10/DATA10 (io), 44 PA3/ADDR11/DATA11 (io), 45 PA4/ADDR12/DATA12 (io), 46 PA5/ADDR13/DATA13 (io), 47 PA6/ADDR14/DATA14 (io), 48 PA7/ADDR15/DATA15 (io), 49 VDD2 (power), 50 VSS2 (power), 51 PAD0/AN0 (in), 52 PAD1/AN1 (in), 53 PAD2/AN2 (in), 54 PAD3/AN3 (in), 55 PAD4/AN4 (in), 56 PAD5/AN5 (in), 57 PAD6/AN6 (in), 58 PAD7/AN7/ETRIG0 (in), 59 VDDA (power), 60 VRH (in), 61 VRL (in), 62 VSSA (power), 63 PS0/RXD0 (io), 64 PS1/TXD0 (io), 65 PS2/RXD1 (io), 66 PS3/TXD1 (io), 67 VREGEN (in), 68 PJ7/KWJ7/SCL/TXCAN0 (io), 69 PJ6/KWJ6/SDA/RXCAN0 (io), 70 PM5/TXCAN0/SCK0 (io), 71 PM4/RXCAN0/MOSI (io), 72 PM3/TXCAN0/~{SS}0 (io), 73 PM2/RXCAN0/MISO0 (io), 74 PM1/TXCAN0/TXB (io), 75 PM0/RXCAN0/RXB (io), 76 VSSX (power), 77 VDDX (power), 78 PP7/KWP7/PWM7 (io), 79 PP5/KWP5/PWM5 (io), 80 PP4/KWP4/PWM4 (io)

## MC9S12D64VPV
designator U?
16-Bit Microcontroller; Published: 21-Mar-2003; LatestRevisionDate: 13-Apr-2006; LatestRevisionNote: IPC-7351 Footprint Added.; DatasheetVersion: 10-Oct-2002; PackageVersion: rev3.1, Nov-2000; PackageReference: 987-01; Publisher: Altium Limited; PackageDescription: 112-Pin Thin Quad Flat Pack 0.65 mm Pitch; ComponentLink1Description: Manufacturer Link; ComponentLink1URL: http://www.freescale.com/; ComponentLink2Description: Datasheet; ComponentLink2URL: http://www.freescale.com/files/microcontrollers/doc/data_sheet/9S12DJ64DGV1.pdf
footprint 987-01_N (Thin QFP, 112-Leads, Body 20 x 20mm, Pitch 0.65mm, IPC Medium Density)
footprint 987-01_L (Thin QFP, 112-Leads, Body 20 x 20mm, Pitch 0.65mm, IPC High Density)
footprint 987-01_M (Thin QFP, 112-Leads, Body 20 x 20mm, Pitch 0.65mm, IPC Low Density)
3D model MC9S12-987-01 (112-Pin Thin Quad Flat Pack 0.65 mm Pitch)
pins: 1 PWM3/KWP3/PP3 (io), 2 PWM2/KWP2/PP2 (io), 3 PWM1/KWP1/PP1 (io), 4 PWM0/KWP0/PP0 (io), 5 XADDR17/PK3 (io), 6 XADDR16/PK2 (io), 7 XADDR15/PK1 (io), 8 XADDR14/PK0 (io), 9 IOC0/PT0 (io), 10 IOC1/PT1 (io), 11 IOC2/PT2 (io), 12 IOC3/PT3 (io), 13 VDD1 (power), 14 VSS1 (power), 15 IOC4/PT4 (io), 16 IOC5/PT5 (io), 17 IOC6/PT6 (io), 18 IOC7/PT7 (io), 19 XADDR19/PK5 (io), 20 XADDR18/PK4 (io), 21 KWJ1/PJ1 (io), 22 KWJ0/PJ0 (io), 23 MODC/~{TAGHI}/BKGD (io), 24 ADDR0/DATA0/PB0 (io), 25 ADDR1/DATA1/PB1 (io), 26 ADDR2/DATA2/PB2 (io), 27 ADDR3/DATA3/PB3 (io), 28 ADDR4/DATA4/PB4 (io), 29 ADDR5/DATA5/PB5 (io), 30 ADDR6/DATA6/PB6 (io), 31 ADDR7/DATA7/PB7 (io), 32 KWH7/PH7 (io), 33 KWH6/PH6 (io), 34 KWH5/PH5 (io), 35 KWH4/PH4 (io), 36 ~{XCLKS}/NOACC/PE7 (io), 37 MODB/IPIPE1/PE6 (io), 38 MODA/IPIPE0/PE5 (io), 39 ECLK/PE4 (io), 40 VSSR (power), 41 VDDR (power), 42 ~{RESET} (io), 43 VDDPLL (power), 44 XFC, 45 VSSPLL (power), 46 EXTAL (in), 47 XTAL (out), 48 TEST (in), 49 KWH3/PH3 (io), 50 KWH2/PH2 (io), 51 KWH1/PH1 (io), 52 KWH0/PH0 (io), 53 ~{LSTRB}/~{TAGLO}/PE3 (io), 54 R/~{W}/PE2 (io), 55 ~{IRQ}/PE1 (in), 56 ~{XIRQ}/PE0 (in), 57 PA0/ADDR8/DATA8 (io), 58 PA1/ADDR9/DATA9 (io), 59 PA2/ADDR10/DATA10 (io), 60 PA3/ADDR11/DATA11 (io), 61 PA4/ADDR12/DATA12 (io), 62 PA5/ADDR13/DATA13 (io), 63 PA6/ADDR14/DATA14 (io), 64 PA7/ADDR15/DATA15 (io), 65 VDD2 (power), 66 VSS2 (power), 67 PAD0/AN0 (in), 68 PAD8/AN8 (in), 69 PAD1/AN1 (in), 70 PAD9/AN9 (in), 71 PAD2/AN2 (in), 72 PAD10/AN10 (in), 73 PAD3/AN3 (in), 74 PAD11/AN11 (in), 75 PAD4/AN4 (in), 76 PAD12/AN12 (in), 77 PAD5/AN5 (in), 78 PAD13/AN13 (in), 79 PAD6/AN6 (in), 80 PAD14/AN14 (in), 81 PAD7/AN7/ETRIG0 (in), 82 PAD15/AN15/ETRIG1 (in), 83 VDDA (power), 84 VRH (in), 85 VRL (in), 86 VSSA (power), 87 PM7 (io), 88 PM6 (io), 89 PS0/RXD0 (io), 90 PS1/TXD0 (io), 91 PS2/RXD1 (io), 92 PS3/TXD1 (io), 93 PS4/MISO0 (io), 94 PS5/MOSI0 (io), 95 PS6/SCK0 (io), 96 PS7/~{SS}0 (io), 97 VREGEN (in), 98 PJ7/KWJ7/SCL/TXCAN0 (io), 99 PJ6/KWJ6/SDA/RXCAN0 (io), 100 PM5/TXCAN0/SCK0 (io), 101 PM4/RXCAN0/MOSI (io), 102 PM3/TXCAN0/~{SS}0 (io), 103 PM2/RXCAN0/MISO0 (io), 104 PM1/TXCAN0/TXB (io), 105 PM0/RXCAN0/RXB (io), 106 VSSX (power), 107 VDDX (power), 108 PK7/~{ECS}/ROMCTL (io), 109 PP7/KWP7/PWM7 (io), 110 PP6/KWP6/PWM6 (io), 111 PP5/KWP5/PWM5 (io), 112 PP4/KWP4/PWM4 (io)

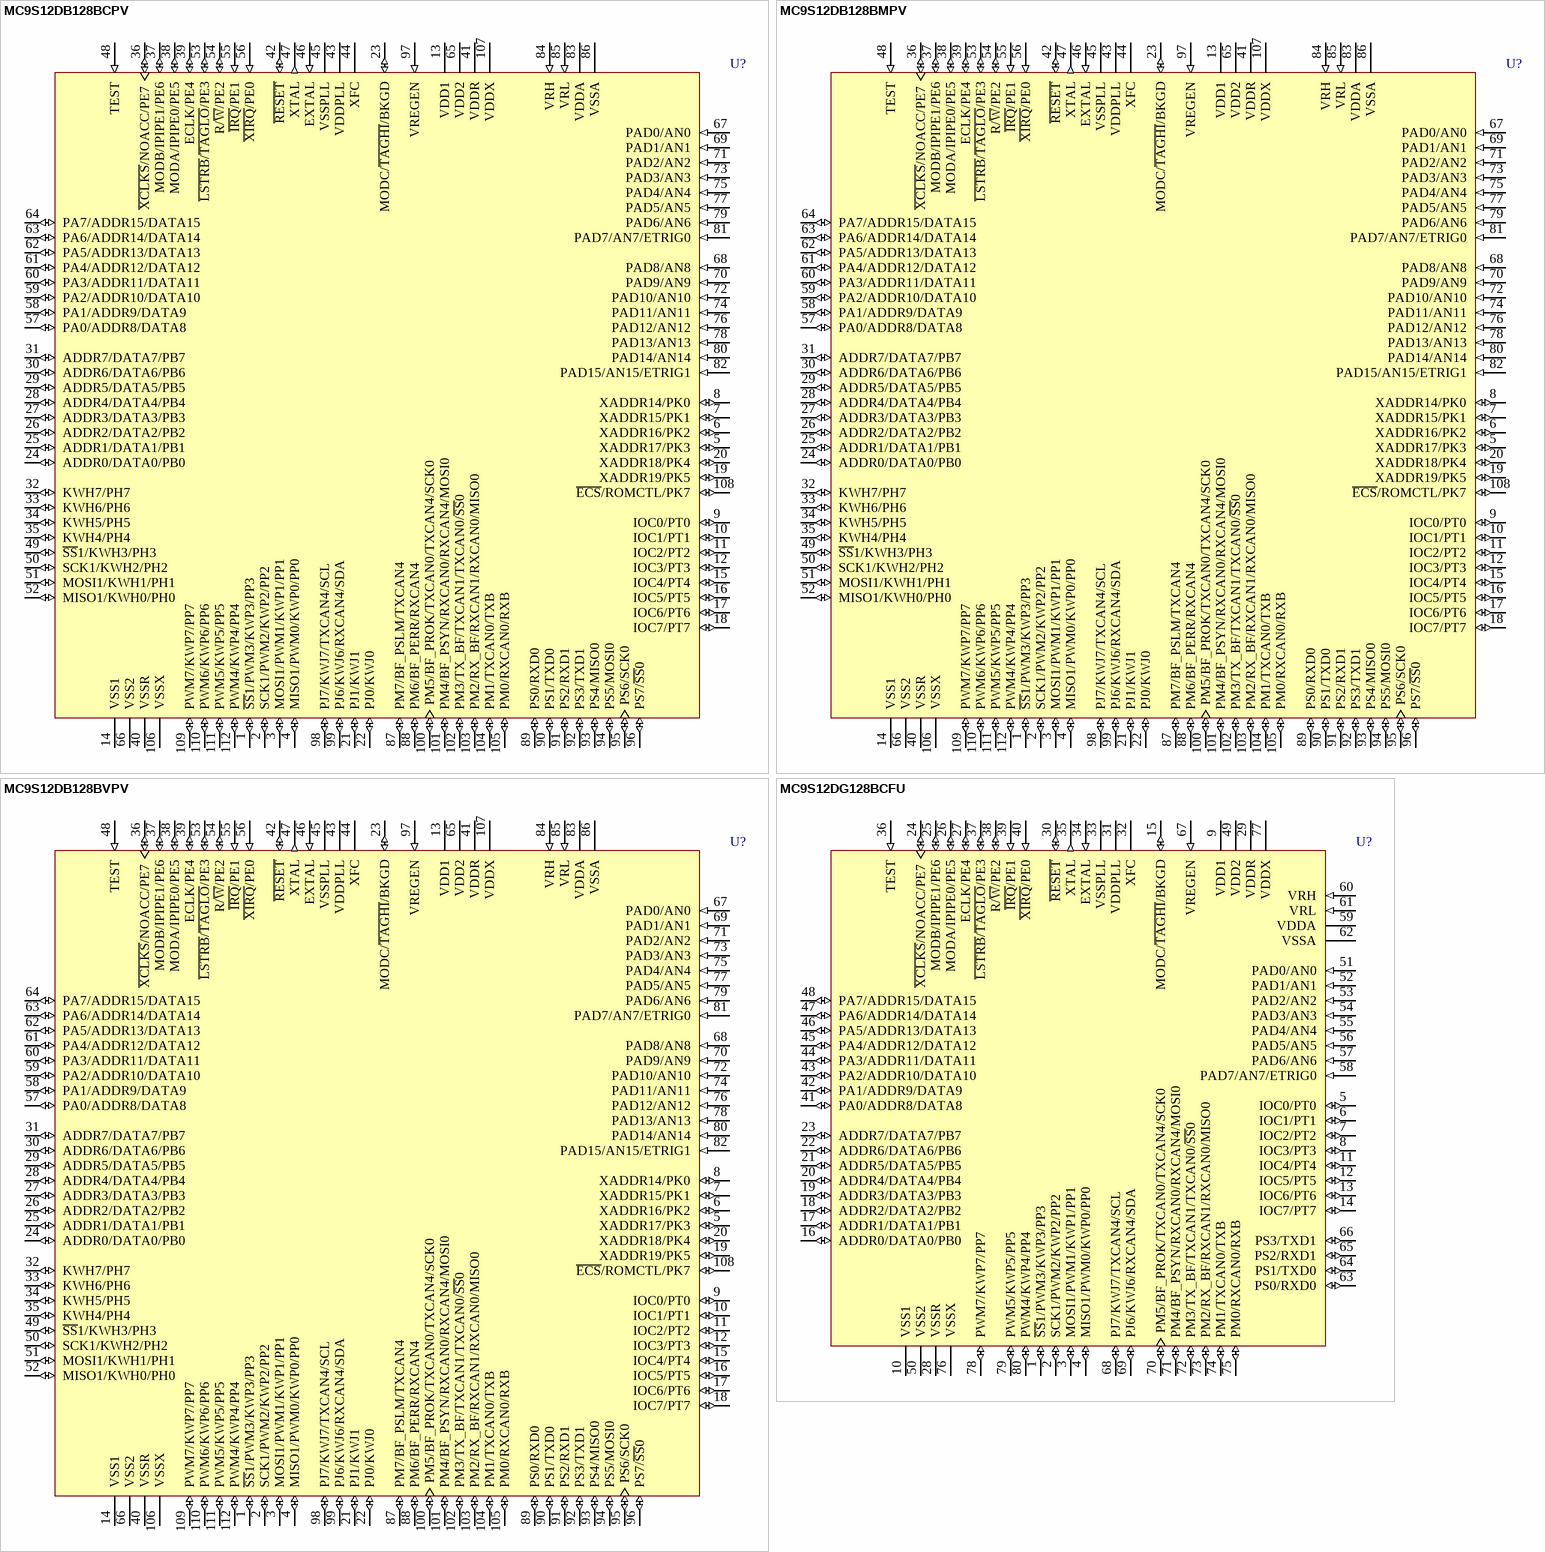
[diagram p4: symbols MC9S12DB128BCPV to MC9S12DG128BCFU]

## MC9S12DB128BCPV
designator U?
16-Bit Microcontroller; Published: 21-Mar-2003; LatestRevisionDate: 13-Apr-2006; LatestRevisionNote: IPC-7351 Footprint Added.; DatasheetVersion: 16-Aug-2002; PackageVersion: rev3.1, Nov-2000; PackageReference: 987-01; Publisher: Altium Limited; PackageDescription: 112-Pin Thin Quad Flat Pack 0.65 mm Pitch; ComponentLink1Description: Manufacturer Link; ComponentLink1URL: http://www.freescale.com/; ComponentLink2Description: Datasheet; ComponentLink2URL: http://www.freescale.com/files/microcontrollers/doc/data_sheet/9S12DT128BDGV1.pdf
footprint 987-01_N (Thin QFP, 112-Leads, Body 20 x 20mm, Pitch 0.65mm, IPC Medium Density)
footprint 987-01_L (Thin QFP, 112-Leads, Body 20 x 20mm, Pitch 0.65mm, IPC High Density)
footprint 987-01_M (Thin QFP, 112-Leads, Body 20 x 20mm, Pitch 0.65mm, IPC Low Density)
3D model MC9S12-987-01 (112-Pin Thin Quad Flat Pack 0.65 mm Pitch)
pins: 1 ~{SS}1/PWM3/KWP3/PP3 (io), 2 SCK1/PWM2/KWP2/PP2 (io), 3 MOSI1/PWM1/KWP1/PP1 (io), 4 MISO1/PWM0/KWP0/PP0 (io), 5 XADDR17/PK3 (io), 6 XADDR16/PK2 (io), 7 XADDR15/PK1 (io), 8 XADDR14/PK0 (io), 9 IOC0/PT0 (io), 10 IOC1/PT1 (io), 11 IOC2/PT2 (io), 12 IOC3/PT3 (io), 13 VDD1 (power), 14 VSS1 (power), 15 IOC4/PT4 (io), 16 IOC5/PT5 (io), 17 IOC6/PT6 (io), 18 IOC7/PT7 (io), 19 XADDR19/PK5 (io), 20 XADDR18/PK4 (io), 21 PJ1/KWJ1 (io), 22 PJ0/KWJ0 (io), 23 MODC/~{TAGHI}/BKGD (io), 24 ADDR0/DATA0/PB0 (io), 25 ADDR1/DATA1/PB1 (io), 26 ADDR2/DATA2/PB2 (io), 27 ADDR3/DATA3/PB3 (io), 28 ADDR4/DATA4/PB4 (io), 29 ADDR5/DATA5/PB5 (io), 30 ADDR6/DATA6/PB6 (io), 31 ADDR7/DATA7/PB7 (io), 32 KWH7/PH7 (io), 33 KWH6/PH6 (io), 34 KWH5/PH5 (io), 35 KWH4/PH4 (io), 36 ~{XCLKS}/NOACC/PE7 (io), 37 MODB/IPIPE1/PE6 (io), 38 MODA/IPIPE0/PE5 (io), 39 ECLK/PE4 (io), 40 VSSR (power), 41 VDDR (power), 42 ~{RESET} (io), 43 VDDPLL (power), 44 XFC, 45 VSSPLL (power), 46 EXTAL (in), 47 XTAL (out), 48 TEST (in), 49 ~{SS}1/KWH3/PH3 (io), 50 SCK1/KWH2/PH2 (io), 51 MOSI1/KWH1/PH1 (io), 52 MISO1/KWH0/PH0 (io), 53 ~{LSTRB}/~{TAGLO}/PE3 (io), 54 R/~{W}/PE2 (io), 55 ~{IRQ}/PE1 (in), 56 ~{XIRQ}/PE0 (in), 57 PA0/ADDR8/DATA8 (io), 58 PA1/ADDR9/DATA9 (io), 59 PA2/ADDR10/DATA10 (io), 60 PA3/ADDR11/DATA11 (io), 61 PA4/ADDR12/DATA12 (io), 62 PA5/ADDR13/DATA13 (io), 63 PA6/ADDR14/DATA14 (io), 64 PA7/ADDR15/DATA15 (io), 65 VDD2 (power), 66 VSS2 (power), 67 PAD0/AN0 (in), 68 PAD8/AN8 (in), 69 PAD1/AN1 (in), 70 PAD9/AN9 (in), 71 PAD2/AN2 (in), 72 PAD10/AN10 (in), 73 PAD3/AN3 (in), 74 PAD11/AN11 (in), 75 PAD4/AN4 (in), 76 PAD12/AN12 (in), 77 PAD5/AN5 (in), 78 PAD13/AN13 (in), 79 PAD6/AN6 (in), 80 PAD14/AN14 (in), 81 PAD7/AN7/ETRIG0 (in), 82 PAD15/AN15/ETRIG1 (in), 83 VDDA (power), 84 VRH (in), 85 VRL (in), 86 VSSA (power), 87 PM7/BF_PSLM/TXCAN4 (io), 88 PM6/BF_PERR/RXCAN4 (io), 89 PS0/RXD0 (io), 90 PS1/TXD0 (io), 91 PS2/RXD1 (io), 92 PS3/TXD1 (io), 93 PS4/MISO0 (io), 94 PS5/MOSI0 (io), 95 PS6/SCK0 (io), 96 PS7/~{SS}0 (io), 97 VREGEN (in), 98 PJ7/KWJ7/TXCAN4/SCL (io), 99 PJ6/KWJ6/RXCAN4/SDA (io), 100 PM5/BF_PROK/TXCAN0/TXCAN4/SCK0 (io), 101 PM4/BF_PSYN/RXCAN0/RXCAN4/MOSI0 (io), 102 PM3/TX_BF/TXCAN1/TXCAN0/~{SS}0 (io), 103 PM2/RX_BF/RXCAN1/RXCAN0/MISO0 (io), 104 PM1/TXCAN0/TXB (io), 105 PM0/RXCAN0/RXB (io), 106 VSSX (power), 107 VDDX (power), 108 ~{ECS}/ROMCTL/PK7 (io), 109 PWM7/KWP7/PP7 (io), 110 PWM6/KWP6/PP6 (io), 111 PWM5/KWP5/PP5 (io), 112 PWM4/KWP4/PP4 (io)